# Altium schematic symbol library FPGA_Xilinx_Virtex5.SchLib: 41 symbols (part 5 of 17)
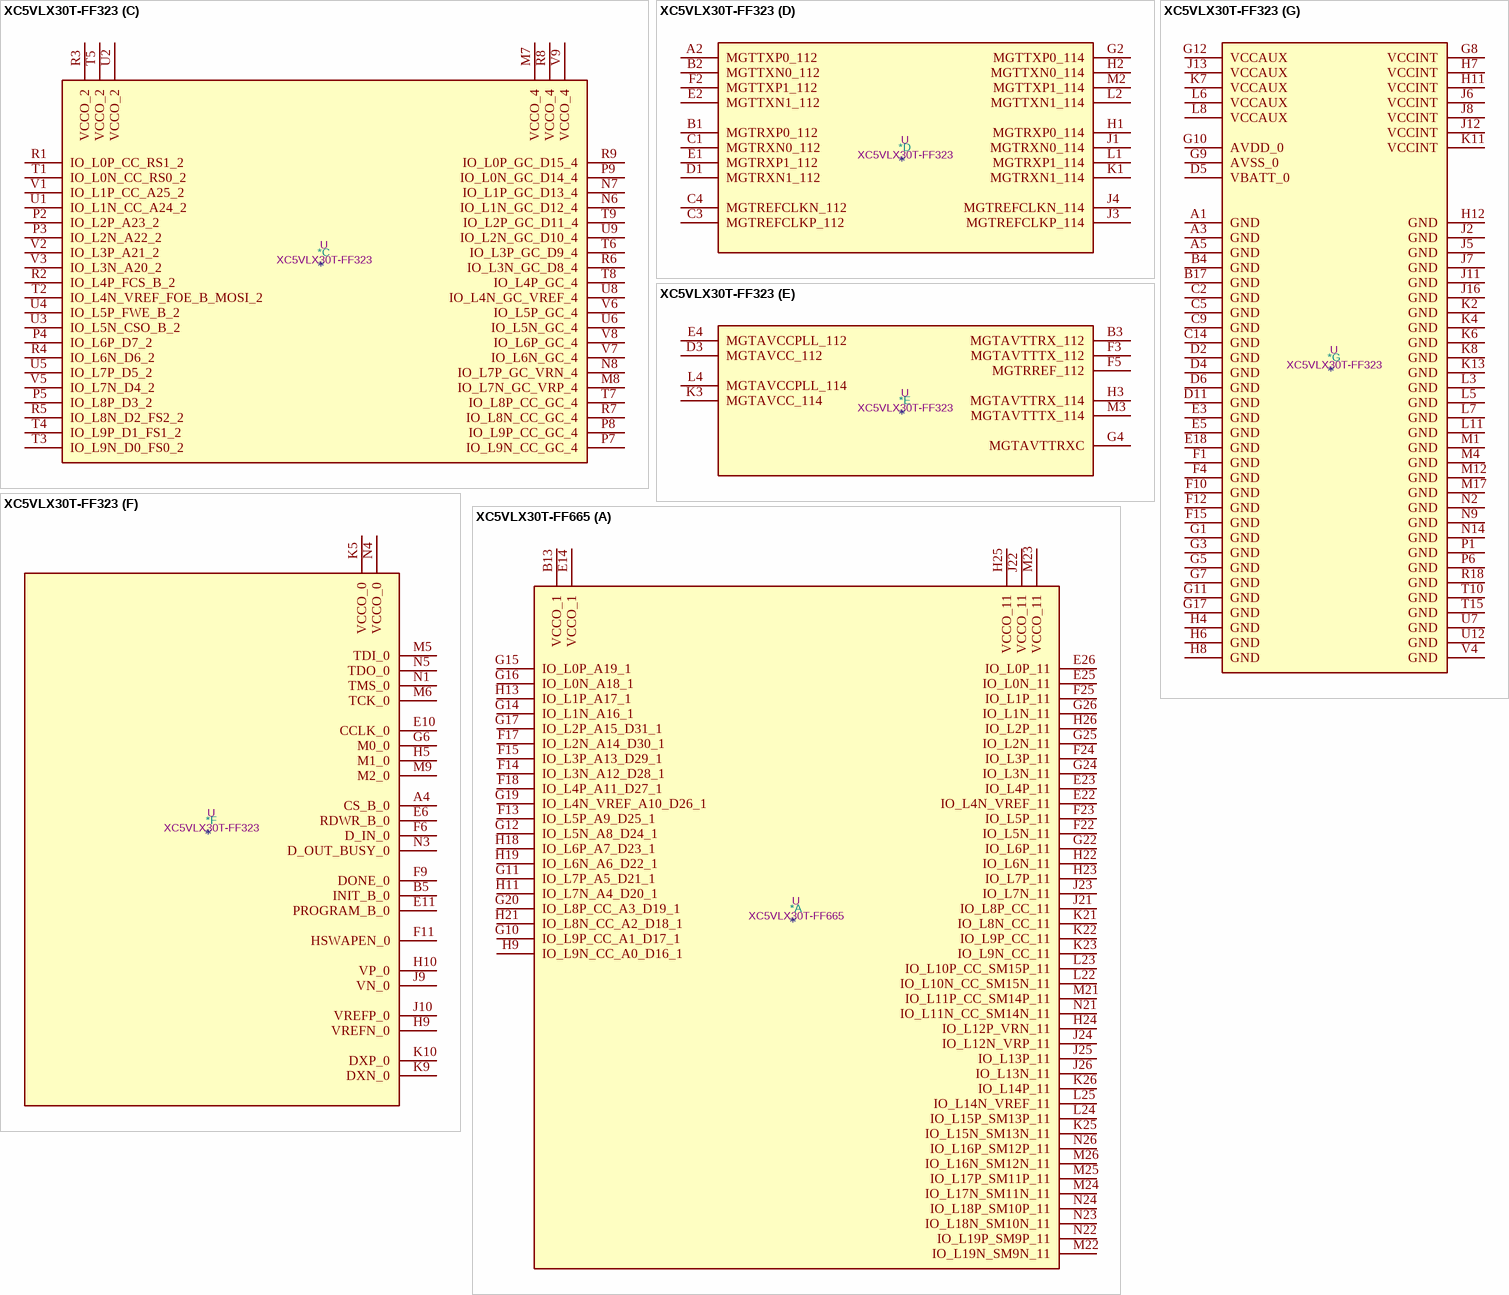
[diagram p141: symbols XC5VLX30T-FF323 to XC5VLX30T-FF665]

## XC5VLX30T-FF323
designator *  value XC5VLX30T-FF323  Reference: U
Virtex 5 LXT 30 XC5VLX30T-FF323; ki_keywords: FPGA; Description_: Virtex 5 LXT 30 XC5VLX30T-FF323
part A pins: A6 IO_L0N_A18_1, A7 IO_L0P_A19_1, A8 IO_L6P_A7_D23_1, A9 IO_L6N_A6_D22_1, A10 VCCO_1, A11 IO_L3P_11, A12 IO_L3N_11, A13 IO_L5N_11, A14 IO_L7N_11, A15 VCCO_11, A16 IO_L10N_CC_SM15N_11, A17 IO_L12N_VRP_11, A18 IO_L12P_VRN_11, B6 IO_L5P_A9_D25_1, B7 VCCO_1, B8 IO_L4N_VREF_A10_D26_1, B9 IO_L4P_A11_D27_1, B10 IO_L8P_CC_A3_D19_1, B11 IO_L19P_SM9P_11, B12 VCCO_11, B13 IO_L5P_11, B14 IO_L7P_11, B15 IO_L9N_CC_11, B16 IO_L10P_CC_SM15P_11, B18 IO_L16N_SM12N_11, C6 IO_L5N_A8_D24_1, C7 IO_L3N_A12_D28_1, C8 IO_L3P_A13_D29_1, C10 IO_L8N_CC_A2_D18_1, C11 IO_L19N_SM9N_11, C12 IO_L4P_11, C13 IO_L4N_VREF_11, C15 IO_L9P_CC_11, C16 IO_L14N_VREF_11, C17 IO_L14P_11, C18 IO_L16P_SM12P_11, D7 IO_L7P_A5_D21_1, D8 IO_L1N_A16_1, D9 IO_L2N_A14_D30_1, D10 IO_L2P_A15_D31_1, D12 IO_L15P_SM13P_11, D13 IO_L0P_11, D14 IO_L0N_11, D15 IO_L1N_11, D16 VCCO_11, D17 IO_L18N_SM10N_11, D18 IO_L18P_SM10P_11, E7 IO_L7N_A4_D20_1, E8 VCCO_1, E9 IO_L1P_A17_1, E12 IO_L15N_SM13N_11, E13 VCCO_11, E14 IO_L2P_11, E15 IO_L1P_11, E16 IO_L13N_11, E17 IO_L13P_11, F7 IO_L9N_CC_A0_D16_1, F8 IO_L9P_CC_A1_D17_1, F13 IO_L8N_CC_11, F14 IO_L2N_11, F16 IO_L11P_CC_SM14P_11, F17 IO_L17N_SM11N_11, F18 IO_L17P_SM11P_11, G13 IO_L8P_CC_11, G14 IO_L6P_11, G15 IO_L6N_11, G16 IO_L11N_CC_SM14N_11
part B pins: G18 IO_L1N_SM7N_13, H13 IO_L0P_SM8P_13, H14 VCCO_13, H15 IO_L6P_SM3P_13, H16 IO_L6N_SM3N_13, H17 IO_L1P_SM7P_13, H18 IO_L3P_SM5P_13, J14 IO_L0N_SM8N_13, J15 IO_L2P_SM6P_13, J17 IO_L5P_SM4P_13, J18 IO_L3N_SM5N_13, K12 IO_L4P_13, K14 IO_L13N_13, K15 IO_L2N_SM6N_13, K16 IO_L9P_CC_SM0P_13, K17 IO_L5N_SM4N_13, K18 VCCO_13, L12 IO_L4N_VREF_13, L13 IO_L11N_CC_13, L14 IO_L13P_13, L15 VCCO_13, L16 IO_L9N_CC_SM0N_13, L17 IO_L7N_SM2N_13, L18 IO_L7P_SM2P_13, M10 IO_L4P_17, M11 IO_L8N_CC_SM1N_13, M13 IO_L15N_13, M14 IO_L11P_CC_13, M15 IO_L19N_13, M16 IO_L18N_13, M18 IO_L10N_CC_13, N10 IO_L8N_CC_17, N11 IO_L4N_VREF_17, N12 IO_L8P_CC_SM1P_13, N13 IO_L15P_13, N15 IO_L19P_13, N16 IO_L18P_13, N17 IO_L12N_VRP_13, N18 IO_L10P_CC_13, P10 IO_L8P_CC_17, P11 VCCO_17, P12 IO_L17P_17, P13 IO_L17N_17, P14 IO_L17P_13, P15 IO_L17N_13, P16 VCCO_13, P17 IO_L14N_VREF_13, P18 IO_L12P_VRN_13, R10 IO_L11P_CC_17, R11 IO_L11N_CC_17, R12 IO_L6N_17, R13 VCCO_17, R14 IO_L14P_17, R15 IO_L16P_13, R16 IO_L16N_13, R17 IO_L14P_13, T11 IO_L13P_17, T12 IO_L6P_17, T13 IO_L16N_17, T14 IO_L14N_VREF_17, T16 IO_L5N_17, T17 IO_L5P_17, T18 IO_L7P_17, U10 IO_L15N_17, U11 IO_L13N_17, U13 IO_L18P_17, U14 IO_L16P_17, U15 IO_L9N_CC_17, U16 IO_L9P_CC_17, U17 VCCO_17, U18 IO_L7N_17, V10 IO_L15P_17, V11 IO_L19N_17, V12 IO_L19P_17, V13 IO_L18N_17, V14 VCCO_17, V15 IO_L12N_VRP_17, V16 IO_L12P_VRN_17, V17 IO_L10N_CC_17, V18 IO_L10P_CC_17
part C pins: M7 VCCO_4, M8 IO_L7N_GC_VRP_4, N6 IO_L1N_GC_D12_4, N7 IO_L1P_GC_D13_4, N8 IO_L7P_GC_VRN_4, P2 IO_L2P_A23_2, P3 IO_L2N_A22_2, P4 IO_L6P_D7_2, P5 IO_L8P_D3_2, P7 IO_L9N_CC_GC_4, P8 IO_L9P_CC_GC_4, P9 IO_L0N_GC_D14_4, R1 IO_L0P_CC_RS1_2, R2 IO_L4P_FCS_B_2, R3 VCCO_2, R4 IO_L6N_D6_2, R5 IO_L8N_D2_FS2_2, R6 IO_L3N_GC_D8_4, R7 IO_L8N_CC_GC_4, R8 VCCO_4, R9 IO_L0P_GC_D15_4, T1 IO_L0N_CC_RS0_2, T2 IO_L4N_VREF_FOE_B_MOSI_2, T3 IO_L9N_D0_FS0_2, T4 IO_L9P_D1_FS1_2, T5 VCCO_2, T6 IO_L3P_GC_D9_4, T7 IO_L8P_CC_GC_4, T8 IO_L4P_GC_4, T9 IO_L2P_GC_D11_4, U1 IO_L1N_CC_A24_2, U2 VCCO_2, U3 IO_L5N_CSO_B_2, U4 IO_L5P_FWE_B_2, U5 IO_L7P_D5_2, U6 IO_L5N_GC_4, U8 IO_L4N_GC_VREF_4, U9 IO_L2N_GC_D10_4, V1 IO_L1P_CC_A25_2, V2 IO_L3P_A21_2, V3 IO_L3N_A20_2, V5 IO_L7N_D4_2, V6 IO_L5P_GC_4, V7 IO_L6N_GC_4, V8 IO_L6P_GC_4, V9 VCCO_4
part D pins: A2 MGTTXP0_112, B1 MGTRXP0_112, B2 MGTTXN0_112, C1 MGTRXN0_112, C3 MGTREFCLKP_112, C4 MGTREFCLKN_112, D1 MGTRXN1_112, E1 MGTRXP1_112, E2 MGTTXN1_112, F2 MGTTXP1_112, G2 MGTTXP0_114, H1 MGTRXP0_114, H2 MGTTXN0_114, J1 MGTRXN0_114, J3 MGTREFCLKP_114, J4 MGTREFCLKN_114, K1 MGTRXN1_114, L1 MGTRXP1_114, L2 MGTTXN1_114, M2 MGTTXP1_114
part E pins: B3 MGTAVTTRX_112, D3 MGTAVCC_112, E4 MGTAVCCPLL_112, F3 MGTAVTTTX_112, F5 MGTRREF_112, G4 MGTAVTTRXC, H3 MGTAVTTRX_114, K3 MGTAVCC_114, L4 MGTAVCCPLL_114, M3 MGTAVTTTX_114
part F pins: A4 CS_B_0, B5 INIT_B_0, E6 RDWR_B_0, E10 CCLK_0, E11 PROGRAM_B_0, F6 D_IN_0, F9 DONE_0, F11 HSWAPEN_0, G6 M0_0, H5 M1_0, H9 VREFN_0, H10 VP_0, J9 VN_0, J10 VREFP_0, K5 VCCO_0, K9 DXN_0, K10 DXP_0, M5 TDI_0, M6 TCK_0, M9 M2_0, N1 TMS_0, N3 D_OUT_BUSY_0, N4 VCCO_0, N5 TDO_0
part G pins: A1 GND, A3 GND, A5 GND, B4 GND, B17 GND, C2 GND, C5 GND, C9 GND, C14 GND, D2 GND, D4 GND, D5 VBATT_0, D6 GND, D11 GND, E3 GND, E5 GND, E18 GND, F1 GND, F4 GND, F10 GND, F12 GND, F15 GND, G1 GND, G3 GND, G5 GND, G7 GND, G8 VCCINT, G9 AVSS_0, G10 AVDD_0, G11 GND, G12 VCCAUX, G17 GND, H4 GND, H6 GND, H7 VCCINT, H8 GND, H11 VCCINT, H12 GND, J2 GND, J5 GND, J6 VCCINT, J7 GND, J8 VCCINT, J11 GND, J12 VCCINT, J13 VCCAUX, J16 GND, K2 GND, K4 GND, K6 GND, K7 VCCAUX, K8 GND, K11 VCCINT, K13 GND, L3 GND, L5 GND, L6 VCCAUX, L7 GND, L8 VCCAUX, L11 GND, M1 GND, M4 GND, M12 GND, M17 GND, N2 GND, N9 GND, N14 GND, P1 GND, P6 GND, R18 GND, T10 GND, T15 GND, U7 GND, U12 GND, V4 GND

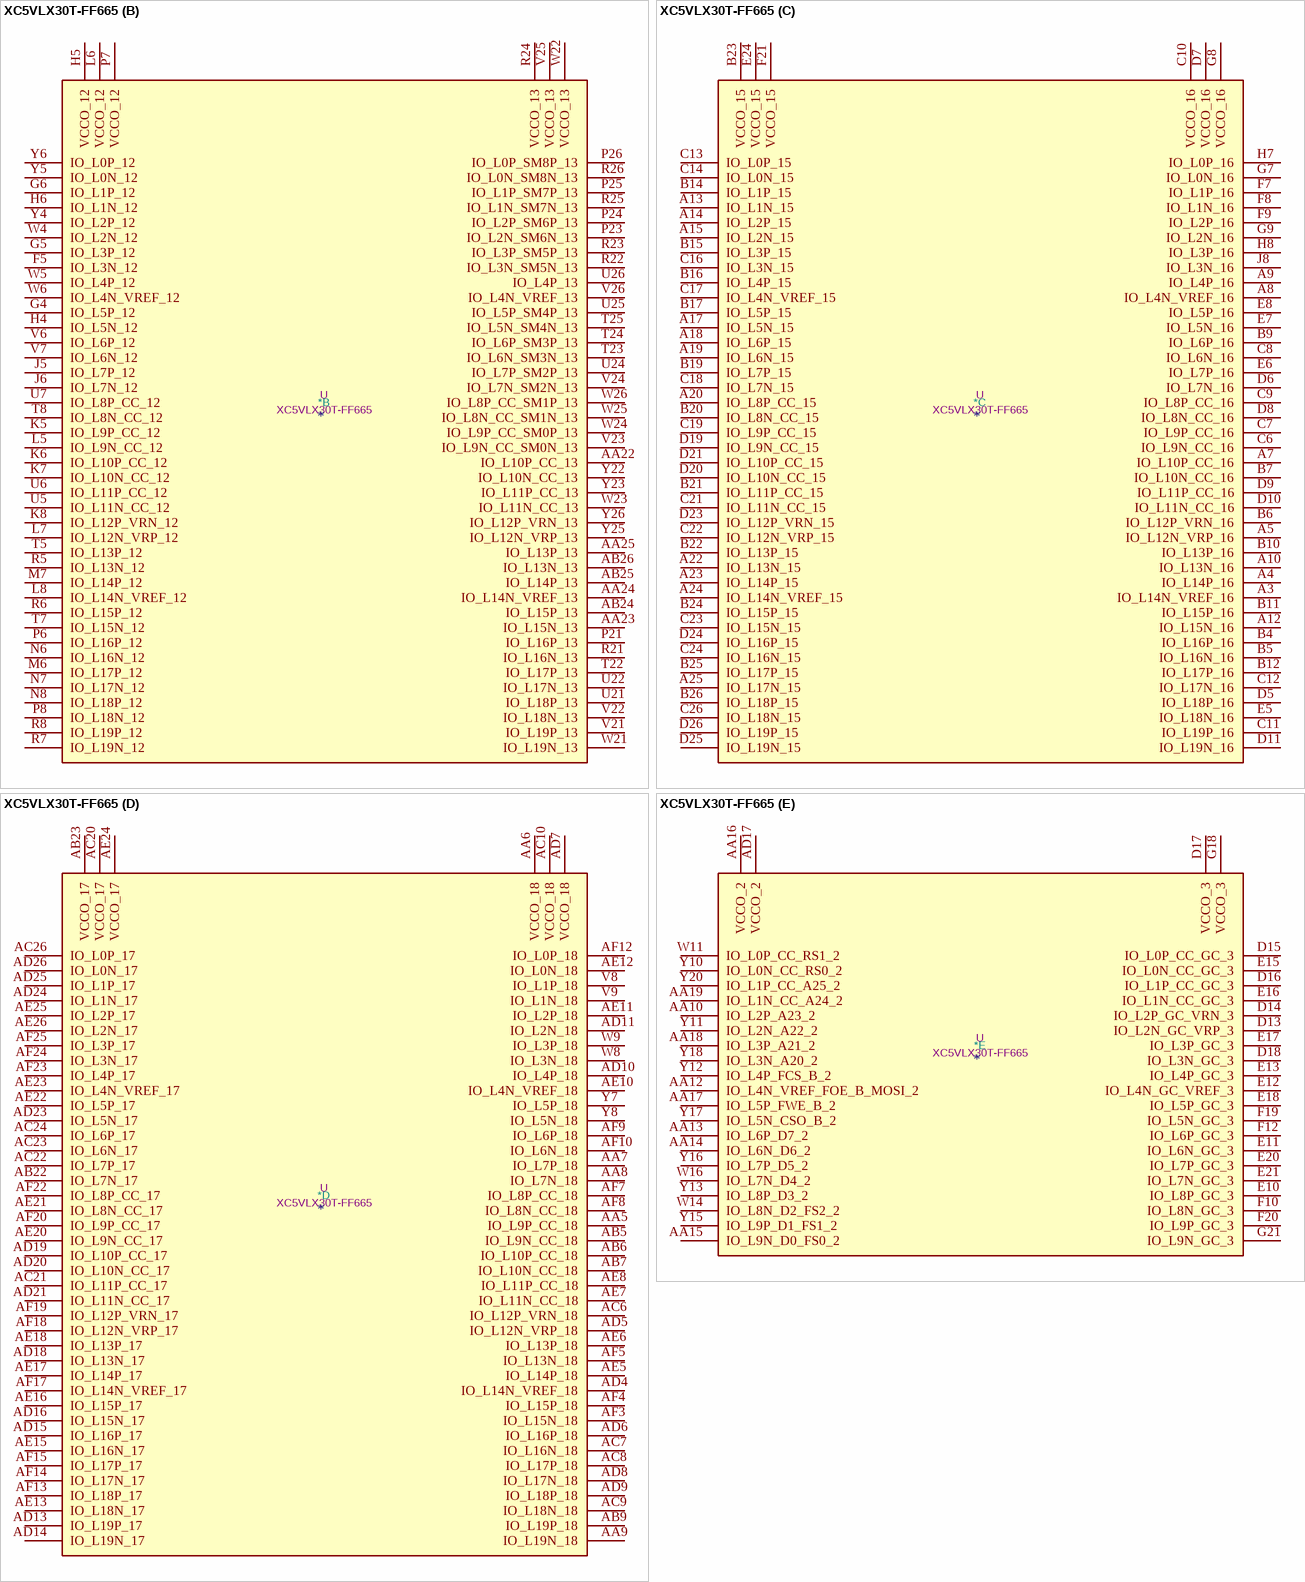
[diagram p32: symbol XC5VLX30T-FF665]

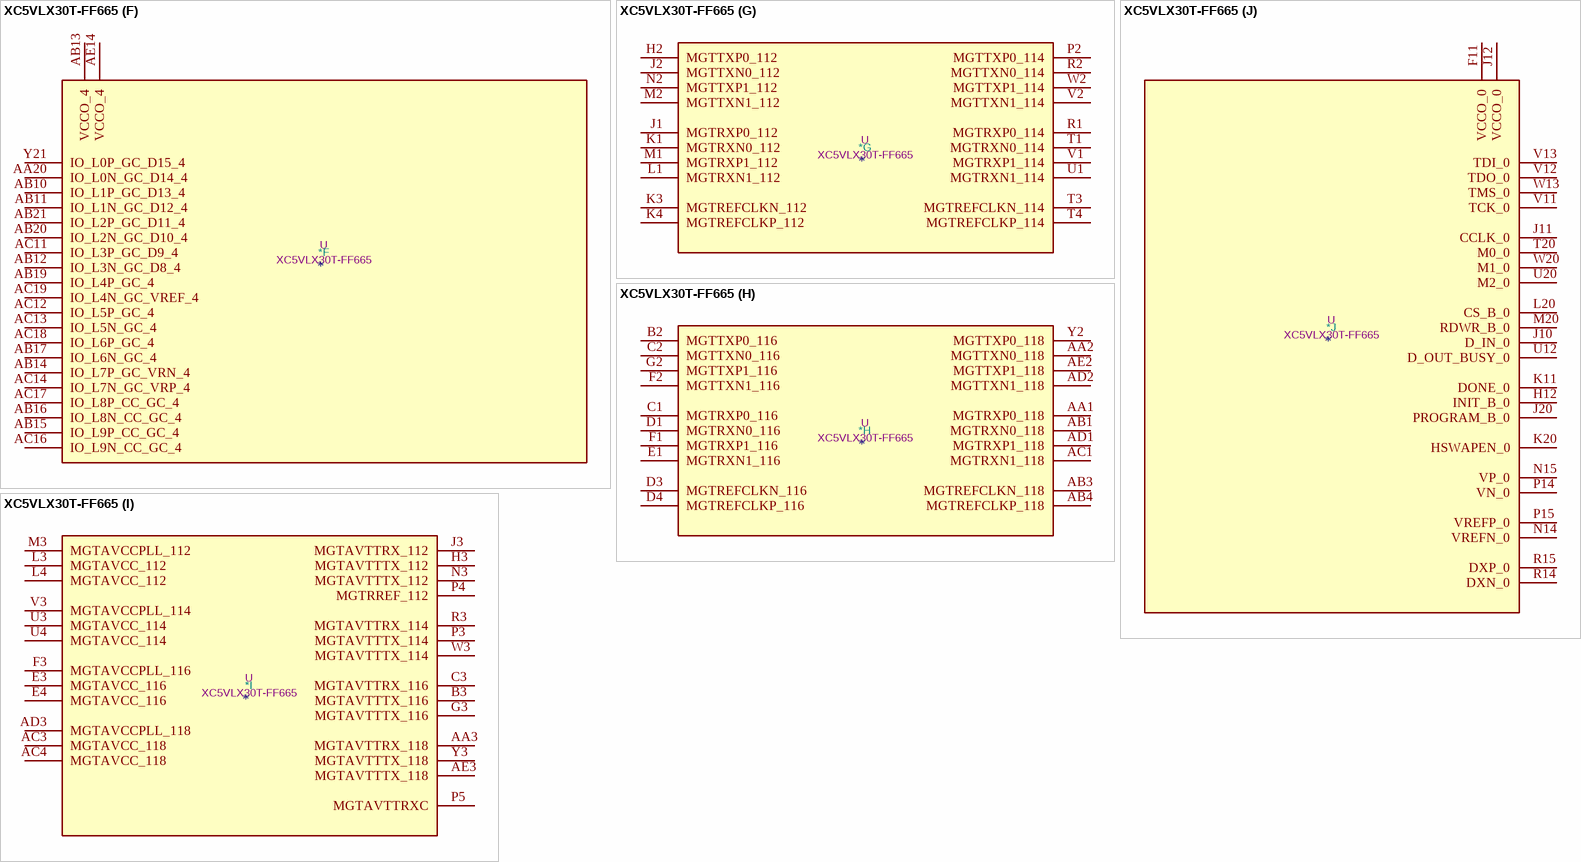
[diagram p33: symbol XC5VLX30T-FF665]

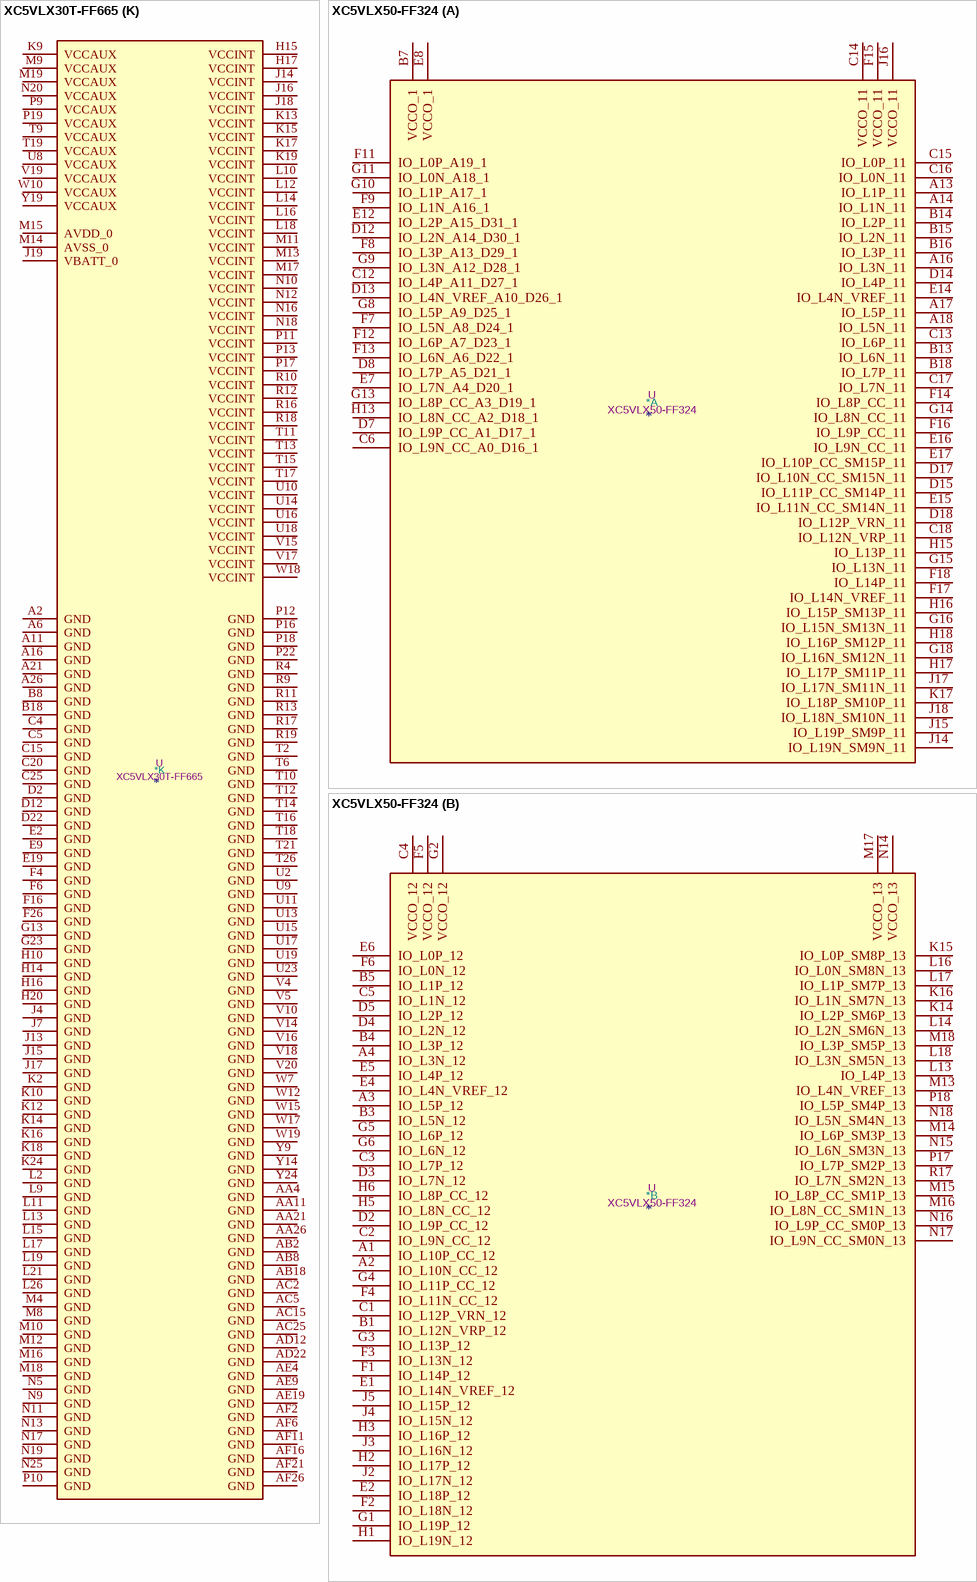
[diagram p34: symbols XC5VLX30T-FF665 to XC5VLX50-FF324]

## XC5VLX30T-FF665
designator *  value XC5VLX30T-FF665  Reference: U
Virtex 5 LXT 30 XC5VLX30T-FF665; ki_keywords: FPGA; Description_: Virtex 5 LXT 30 XC5VLX30T-FF665
part A pins: B13 VCCO_1, E14 VCCO_1, E22 IO_L4N_VREF_11, E23 IO_L4P_11, E25 IO_L0N_11, E26 IO_L0P_11, F13 IO_L5P_A9_D25_1, F14 IO_L3N_A12_D28_1, F15 IO_L3P_A13_D29_1, F17 IO_L2N_A14_D30_1, F18 IO_L4P_A11_D27_1, F22 IO_L5N_11, F23 IO_L5P_11, F24 IO_L3P_11, F25 IO_L1P_11, G10 IO_L9P_CC_A1_D17_1, G11 IO_L7P_A5_D21_1, G12 IO_L5N_A8_D24_1, G14 IO_L1N_A16_1, G15 IO_L0P_A19_1, G16 IO_L0N_A18_1, G17 IO_L2P_A15_D31_1, G19 IO_L4N_VREF_A10_D26_1, G20 IO_L8P_CC_A3_D19_1, G22 IO_L6P_11, G24 IO_L3N_11, G25 IO_L2N_11, G26 IO_L1N_11, H9 IO_L9N_CC_A0_D16_1, H11 IO_L7N_A4_D20_1, H13 IO_L1P_A17_1, H18 IO_L6P_A7_D23_1, H19 IO_L6N_A6_D22_1, H21 IO_L8N_CC_A2_D18_1, H22 IO_L6N_11, H23 IO_L7P_11, H24 IO_L12P_VRN_11, H25 VCCO_11, H26 IO_L2P_11, J21 IO_L8P_CC_11, J22 VCCO_11, J23 IO_L7N_11, J24 IO_L12N_VRP_11, J25 IO_L13P_11, J26 IO_L13N_11, K21 IO_L8N_CC_11, K22 IO_L9P_CC_11, K23 IO_L9N_CC_11, K25 IO_L15N_SM13N_11, K26 IO_L14P_11, L22 IO_L10N_CC_SM15N_11, L23 IO_L10P_CC_SM15P_11, L24 IO_L15P_SM13P_11, L25 IO_L14N_VREF_11, M21 IO_L11P_CC_SM14P_11, M22 IO_L19N_SM9N_11, M23 VCCO_11, M24 IO_L17N_SM11N_11, M25 IO_L17P_SM11P_11, M26 IO_L16N_SM12N_11, N21 IO_L11N_CC_SM14N_11, N22 IO_L19P_SM9P_11, N23 IO_L18N_SM10N_11, N24 IO_L18P_SM10P_11, N26 IO_L16P_SM12P_11
part B pins: AA22 IO_L10P_CC_13, AA23 IO_L15N_13, AA24 IO_L14N_VREF_13, AA25 IO_L13P_13, AB24 IO_L15P_13, AB25 IO_L14P_13, AB26 IO_L13N_13, F5 IO_L3N_12, G4 IO_L5P_12, G5 IO_L3P_12, G6 IO_L1P_12, H4 IO_L5N_12, H5 VCCO_12, H6 IO_L1N_12, J5 IO_L7P_12, J6 IO_L7N_12, K5 IO_L9P_CC_12, K6 IO_L10P_CC_12, K7 IO_L10N_CC_12, K8 IO_L12P_VRN_12, L5 IO_L9N_CC_12, L6 VCCO_12, L7 IO_L12N_VRP_12, L8 IO_L14N_VREF_12, M6 IO_L17P_12, M7 IO_L14P_12, N6 IO_L16N_12, N7 IO_L17N_12, N8 IO_L18P_12, P6 IO_L16P_12, P7 VCCO_12, P8 IO_L18N_12, P21 IO_L16P_13, P23 IO_L2N_SM6N_13, P24 IO_L2P_SM6P_13, P25 IO_L1P_SM7P_13, P26 IO_L0P_SM8P_13, R5 IO_L13N_12, R6 IO_L15P_12, R7 IO_L19N_12, R8 IO_L19P_12, R21 IO_L16N_13, R22 IO_L3N_SM5N_13, R23 IO_L3P_SM5P_13, R24 VCCO_13, R25 IO_L1N_SM7N_13, R26 IO_L0N_SM8N_13, T5 IO_L13P_12, T7 IO_L15N_12, T8 IO_L8N_CC_12, T22 IO_L17P_13, T23 IO_L6N_SM3N_13, T24 IO_L6P_SM3P_13, T25 IO_L5N_SM4N_13, U5 IO_L11N_CC_12, U6 IO_L11P_CC_12, U7 IO_L8P_CC_12, U21 IO_L18P_13, U22 IO_L17N_13, U24 IO_L7P_SM2P_13, U25 IO_L5P_SM4P_13, U26 IO_L4P_13, V6 IO_L6P_12, V7 IO_L6N_12, V21 IO_L19P_13, V22 IO_L18N_13, V23 IO_L9N_CC_SM0N_13, V24 IO_L7N_SM2N_13, V25 VCCO_13, V26 IO_L4N_VREF_13, W4 IO_L2N_12, W5 IO_L4P_12, W6 IO_L4N_VREF_12, W21 IO_L19N_13, W22 VCCO_13, W23 IO_L11N_CC_13, W24 IO_L9P_CC_SM0P_13, W25 IO_L8N_CC_SM1N_13, W26 IO_L8P_CC_SM1P_13, Y4 IO_L2P_12, Y5 IO_L0N_12, Y6 IO_L0P_12, Y22 IO_L10N_CC_13, Y23 IO_L11P_CC_13, Y25 IO_L12N_VRP_13, Y26 IO_L12P_VRN_13
part C pins: A3 IO_L14N_VREF_16, A4 IO_L14P_16, A5 IO_L12N_VRP_16, A7 IO_L10P_CC_16, A8 IO_L4N_VREF_16, A9 IO_L4P_16, A10 IO_L13N_16, A12 IO_L15N_16, A13 IO_L1N_15, A14 IO_L2P_15, A15 IO_L2N_15, A17 IO_L5N_15, A18 IO_L6P_15, A19 IO_L6N_15, A20 IO_L8P_CC_15, A22 IO_L13N_15, A23 IO_L14P_15, A24 IO_L14N_VREF_15, A25 IO_L17N_15, B4 IO_L16P_16, B5 IO_L16N_16, B6 IO_L12P_VRN_16, B7 IO_L10N_CC_16, B9 IO_L6P_16, B10 IO_L13P_16, B11 IO_L15P_16, B12 IO_L17P_16, B14 IO_L1P_15, B15 IO_L3P_15, B16 IO_L4P_15, B17 IO_L5P_15, B19 IO_L7P_15, B20 IO_L8N_CC_15, B21 IO_L11P_CC_15, B22 IO_L13P_15, B23 VCCO_15, B24 IO_L15P_15, B25 IO_L17P_15, B26 IO_L18P_15, C6 IO_L9N_CC_16, C7 IO_L9P_CC_16, C8 IO_L6N_16, C9 IO_L8P_CC_16, C10 VCCO_16, C11 IO_L19P_16, C12 IO_L17N_16, C13 IO_L0P_15, C14 IO_L0N_15, C16 IO_L3N_15, C17 IO_L4N_VREF_15, C18 IO_L7N_15, C19 IO_L9P_CC_15, C21 IO_L11N_CC_15, C22 IO_L12N_VRP_15, C23 IO_L15N_15, C24 IO_L16N_15, C26 IO_L18N_15, D5 IO_L18P_16, D6 IO_L7N_16, D7 VCCO_16, D8 IO_L8N_CC_16, D9 IO_L11P_CC_16, D10 IO_L11N_CC_16, D11 IO_L19N_16, D19 IO_L9N_CC_15, D20 IO_L10N_CC_15, D21 IO_L10P_CC_15, D23 IO_L12P_VRN_15, D24 IO_L16P_15, D25 IO_L19N_15, D26 IO_L19P_15, E5 IO_L18N_16, E6 IO_L7P_16, E7 IO_L5N_16, E8 IO_L5P_16, E24 VCCO_15, F7 IO_L1P_16, F8 IO_L1N_16, F9 IO_L2P_16, F21 VCCO_15, G7 IO_L0N_16, G8 VCCO_16, G9 IO_L2N_16, H7 IO_L0P_16, H8 IO_L3P_16, J8 IO_L3N_16
part D pins: AA5 IO_L9P_CC_18, AA6 VCCO_18, AA7 IO_L7P_18, AA8 IO_L7N_18, AA9 IO_L19N_18, AB5 IO_L9N_CC_18, AB6 IO_L10P_CC_18, AB7 IO_L10N_CC_18, AB9 IO_L19P_18, AB22 IO_L7N_17, AB23 VCCO_17, AC6 IO_L12P_VRN_18, AC7 IO_L16N_18, AC8 IO_L17P_18, AC9 IO_L18N_18, AC10 VCCO_18, AC20 VCCO_17, AC21 IO_L11P_CC_17, AC22 IO_L7P_17, AC23 IO_L6N_17, AC24 IO_L6P_17, AC26 IO_L0P_17, AD4 IO_L14N_VREF_18, AD5 IO_L12N_VRP_18, AD6 IO_L16P_18, AD7 VCCO_18, AD8 IO_L17N_18, AD9 IO_L18P_18, AD10 IO_L4P_18, AD11 IO_L2N_18, AD13 IO_L19P_17, AD14 IO_L19N_17, AD15 IO_L16P_17, AD16 IO_L15N_17, AD18 IO_L13N_17, AD19 IO_L10P_CC_17, AD20 IO_L10N_CC_17, AD21 IO_L11N_CC_17, AD23 IO_L5N_17, AD24 IO_L1N_17, AD25 IO_L1P_17, AD26 IO_L0N_17, AE5 IO_L14P_18, AE6 IO_L13P_18, AE7 IO_L11N_CC_18, AE8 IO_L11P_CC_18, AE10 IO_L4N_VREF_18, AE11 IO_L2P_18, AE12 IO_L0N_18, AE13 IO_L18N_17, AE15 IO_L16N_17, AE16 IO_L15P_17, AE17 IO_L14P_17, AE18 IO_L13P_17, AE20 IO_L9N_CC_17, AE21 IO_L8N_CC_17, AE22 IO_L5P_17, AE23 IO_L4N_VREF_17, AE24 VCCO_17, AE25 IO_L2P_17, AE26 IO_L2N_17, AF3 IO_L15N_18, AF4 IO_L15P_18, AF5 IO_L13N_18, AF7 IO_L8P_CC_18, AF8 IO_L8N_CC_18, AF9 IO_L6P_18, AF10 IO_L6N_18, AF12 IO_L0P_18, AF13 IO_L18P_17, AF14 IO_L17N_17, AF15 IO_L17P_17, AF17 IO_L14N_VREF_17, AF18 IO_L12N_VRP_17, AF19 IO_L12P_VRN_17, AF20 IO_L9P_CC_17, AF22 IO_L8P_CC_17, AF23 IO_L4P_17, AF24 IO_L3N_17, AF25 IO_L3P_17, V8 IO_L1P_18, V9 IO_L1N_18, W8 IO_L3N_18, W9 IO_L3P_18, Y7 IO_L5P_18, Y8 IO_L5N_18
part E pins: AA10 IO_L2P_A23_2, AA12 IO_L4N_VREF_FOE_B_MOSI_2, AA13 IO_L6P_D7_2, AA14 IO_L6N_D6_2, AA15 IO_L9N_D0_FS0_2, AA16 VCCO_2, AA17 IO_L5P_FWE_B_2, AA18 IO_L3P_A21_2, AA19 IO_L1N_CC_A24_2, AD17 VCCO_2, D13 IO_L2N_GC_VRP_3, D14 IO_L2P_GC_VRN_3, D15 IO_L0P_CC_GC_3, D16 IO_L1P_CC_GC_3, D17 VCCO_3, D18 IO_L3N_GC_3, E10 IO_L8P_GC_3, E11 IO_L6N_GC_3, E12 IO_L4N_GC_VREF_3, E13 IO_L4P_GC_3, E15 IO_L0N_CC_GC_3, E16 IO_L1N_CC_GC_3, E17 IO_L3P_GC_3, E18 IO_L5P_GC_3, E20 IO_L7P_GC_3, E21 IO_L7N_GC_3, F10 IO_L8N_GC_3, F12 IO_L6P_GC_3, F19 IO_L5N_GC_3, F20 IO_L9P_GC_3, G18 VCCO_3, G21 IO_L9N_GC_3, W11 IO_L0P_CC_RS1_2, W14 IO_L8N_D2_FS2_2, W16 IO_L7N_D4_2, Y10 IO_L0N_CC_RS0_2, Y11 IO_L2N_A22_2, Y12 IO_L4P_FCS_B_2, Y13 IO_L8P_D3_2, Y15 IO_L9P_D1_FS1_2, Y16 IO_L7P_D5_2, Y17 IO_L5N_CSO_B_2, Y18 IO_L3N_A20_2, Y20 IO_L1P_CC_A25_2
part F pins: AA20 IO_L0N_GC_D14_4, AB10 IO_L1P_GC_D13_4, AB11 IO_L1N_GC_D12_4, AB12 IO_L3N_GC_D8_4, AB13 VCCO_4, AB14 IO_L7P_GC_VRN_4, AB15 IO_L9P_CC_GC_4, AB16 IO_L8N_CC_GC_4, AB17 IO_L6N_GC_4, AB19 IO_L4P_GC_4, AB20 IO_L2N_GC_D10_4, AB21 IO_L2P_GC_D11_4, AC11 IO_L3P_GC_D9_4, AC12 IO_L5P_GC_4, AC13 IO_L5N_GC_4, AC14 IO_L7N_GC_VRP_4, AC16 IO_L9N_CC_GC_4, AC17 IO_L8P_CC_GC_4, AC18 IO_L6P_GC_4, AC19 IO_L4N_GC_VREF_4, AE14 VCCO_4, Y21 IO_L0P_GC_D15_4
part G pins: H2 MGTTXP0_112, J1 MGTRXP0_112, J2 MGTTXN0_112, K1 MGTRXN0_112, K3 MGTREFCLKN_112, K4 MGTREFCLKP_112, L1 MGTRXN1_112, M1 MGTRXP1_112, M2 MGTTXN1_112, N2 MGTTXP1_112, P2 MGTTXP0_114, R1 MGTRXP0_114, R2 MGTTXN0_114, T1 MGTRXN0_114, T3 MGTREFCLKN_114, T4 MGTREFCLKP_114, U1 MGTRXN1_114, V1 MGTRXP1_114, V2 MGTTXN1_114, W2 MGTTXP1_114
part H pins: AA1 MGTRXP0_118, AA2 MGTTXN0_118, AB1 MGTRXN0_118, AB3 MGTREFCLKN_118, AB4 MGTREFCLKP_118, AC1 MGTRXN1_118, AD1 MGTRXP1_118, AD2 MGTTXN1_118, AE2 MGTTXP1_118, B2 MGTTXP0_116, C1 MGTRXP0_116, C2 MGTTXN0_116, D1 MGTRXN0_116, D3 MGTREFCLKN_116, D4 MGTREFCLKP_116, E1 MGTRXN1_116, F1 MGTRXP1_116, F2 MGTTXN1_116, G2 MGTTXP1_116, Y2 MGTTXP0_118
part I pins: AA3 MGTAVTTRX_118, AC3 MGTAVCC_118, AC4 MGTAVCC_118, AD3 MGTAVCCPLL_118, AE3 MGTAVTTTX_118, B3 MGTAVTTTX_116, C3 MGTAVTTRX_116, E3 MGTAVCC_116, E4 MGTAVCC_116, F3 MGTAVCCPLL_116, G3 MGTAVTTTX_116, H3 MGTAVTTTX_112, J3 MGTAVTTRX_112, L3 MGTAVCC_112, L4 MGTAVCC_112, M3 MGTAVCCPLL_112, N3 MGTAVTTTX_112, P3 MGTAVTTTX_114, P4 MGTRREF_112, P5 MGTAVTTRXC, R3 MGTAVTTRX_114, U3 MGTAVCC_114, U4 MGTAVCC_114, V3 MGTAVCCPLL_114, W3 MGTAVTTTX_114, Y3 MGTAVTTTX_118
part J pins: F11 VCCO_0, H12 INIT_B_0, J10 D_IN_0, J11 CCLK_0, J12 VCCO_0, J20 PROGRAM_B_0, K11 DONE_0, K20 HSWAPEN_0, L20 CS_B_0, M20 RDWR_B_0, N14 VREFN_0, N15 VP_0, P14 VN_0, P15 VREFP_0, R14 DXN_0, R15 DXP_0, T20 M0_0, U12 D_OUT_BUSY_0, U20 M2_0, V11 TCK_0, V12 TDO_0, V13 TDI_0, W13 TMS_0, W20 M1_0
part K pins: A2 GND, A6 GND, A11 GND, A16 GND, A21 GND, A26 GND, AA4 GND, AA11 GND, AA21 GND, AA26 GND, AB2 GND, AB8 GND, AB18 GND, AC2 GND, AC5 GND, AC15 GND, AC25 GND, AD12 GND, AD22 GND, AE4 GND, AE9 GND, AE19 GND, AF2 GND, AF6 GND, AF11 GND, AF16 GND, AF21 GND, AF26 GND, B8 GND, B18 GND, C4 GND, C5 GND, C15 GND, C20 GND, C25 GND, D2 GND, D12 GND, D22 GND, E2 GND, E9 GND, E19 GND, F4 GND, F6 GND, F16 GND, F26 GND, G13 GND, G23 GND, H10 GND, H14 GND, H15 VCCINT, H16 GND, H17 VCCINT, H20 GND, J4 GND, J7 GND, J13 GND, J14 VCCINT, J15 GND, J16 VCCINT, J17 GND, J18 VCCINT, J19 VBATT_0, K2 GND, K9 VCCAUX, K10 GND, K12 GND, K13 VCCINT, K14 GND, K15 VCCINT, K16 GND, K17 VCCINT, K18 GND, K19 VCCINT, K24 GND, L2 GND, L9 GND, L10 VCCINT, L11 GND, L12 VCCINT, L13 GND, L14 VCCINT, L15 GND, L16 VCCINT, L17 GND, L18 VCCINT, L19 GND, L21 GND, L26 GND, M4 GND, M8 GND, M9 VCCAUX, M10 GND, M11 VCCINT, M12 GND, M13 VCCINT, M14 AVSS_0, M15 AVDD_0, M16 GND, M17 VCCINT, M18 GND, M19 VCCAUX, N5 GND, N9 GND, N10 VCCINT, N11 GND, N12 VCCINT, N13 GND, N16 VCCINT, N17 GND, N18 VCCINT, N19 GND, N20 VCCAUX, N25 GND, P9 VCCAUX, P10 GND, P11 VCCINT, P12 GND, P13 VCCINT, P16 GND, P17 VCCINT, P18 GND, P19 VCCAUX, P22 GND, R4 GND, R9 GND, R10 VCCINT, R11 GND, R12 VCCINT, R13 GND, R16 VCCINT, R17 GND, R18 VCCINT, R19 GND, T2 GND, T6 GND, T9 VCCAUX, T10 GND, T11 VCCINT, T12 GND, T13 VCCINT, T14 GND, T15 VCCINT, T16 GND, T17 VCCINT, T18 GND, T19 VCCAUX, T21 GND, T26 GND, U2 GND, U8 VCCAUX, U9 GND, U10 VCCINT, U11 GND, U13 GND, U14 VCCINT, U15 GND, U16 VCCINT, U17 GND, U18 VCCINT, U19 GND, U23 GND, V4 GND, V5 GND, V10 GND, V14 GND, V15 VCCINT, V16 GND, V17 VCCINT, V18 GND, V19 VCCAUX, V20 GND, W7 GND, W10 VCCAUX, W12 GND, W15 GND, W17 GND, W18 VCCINT, W19 GND, Y9 GND, Y14 GND, Y19 VCCAUX, Y24 GND

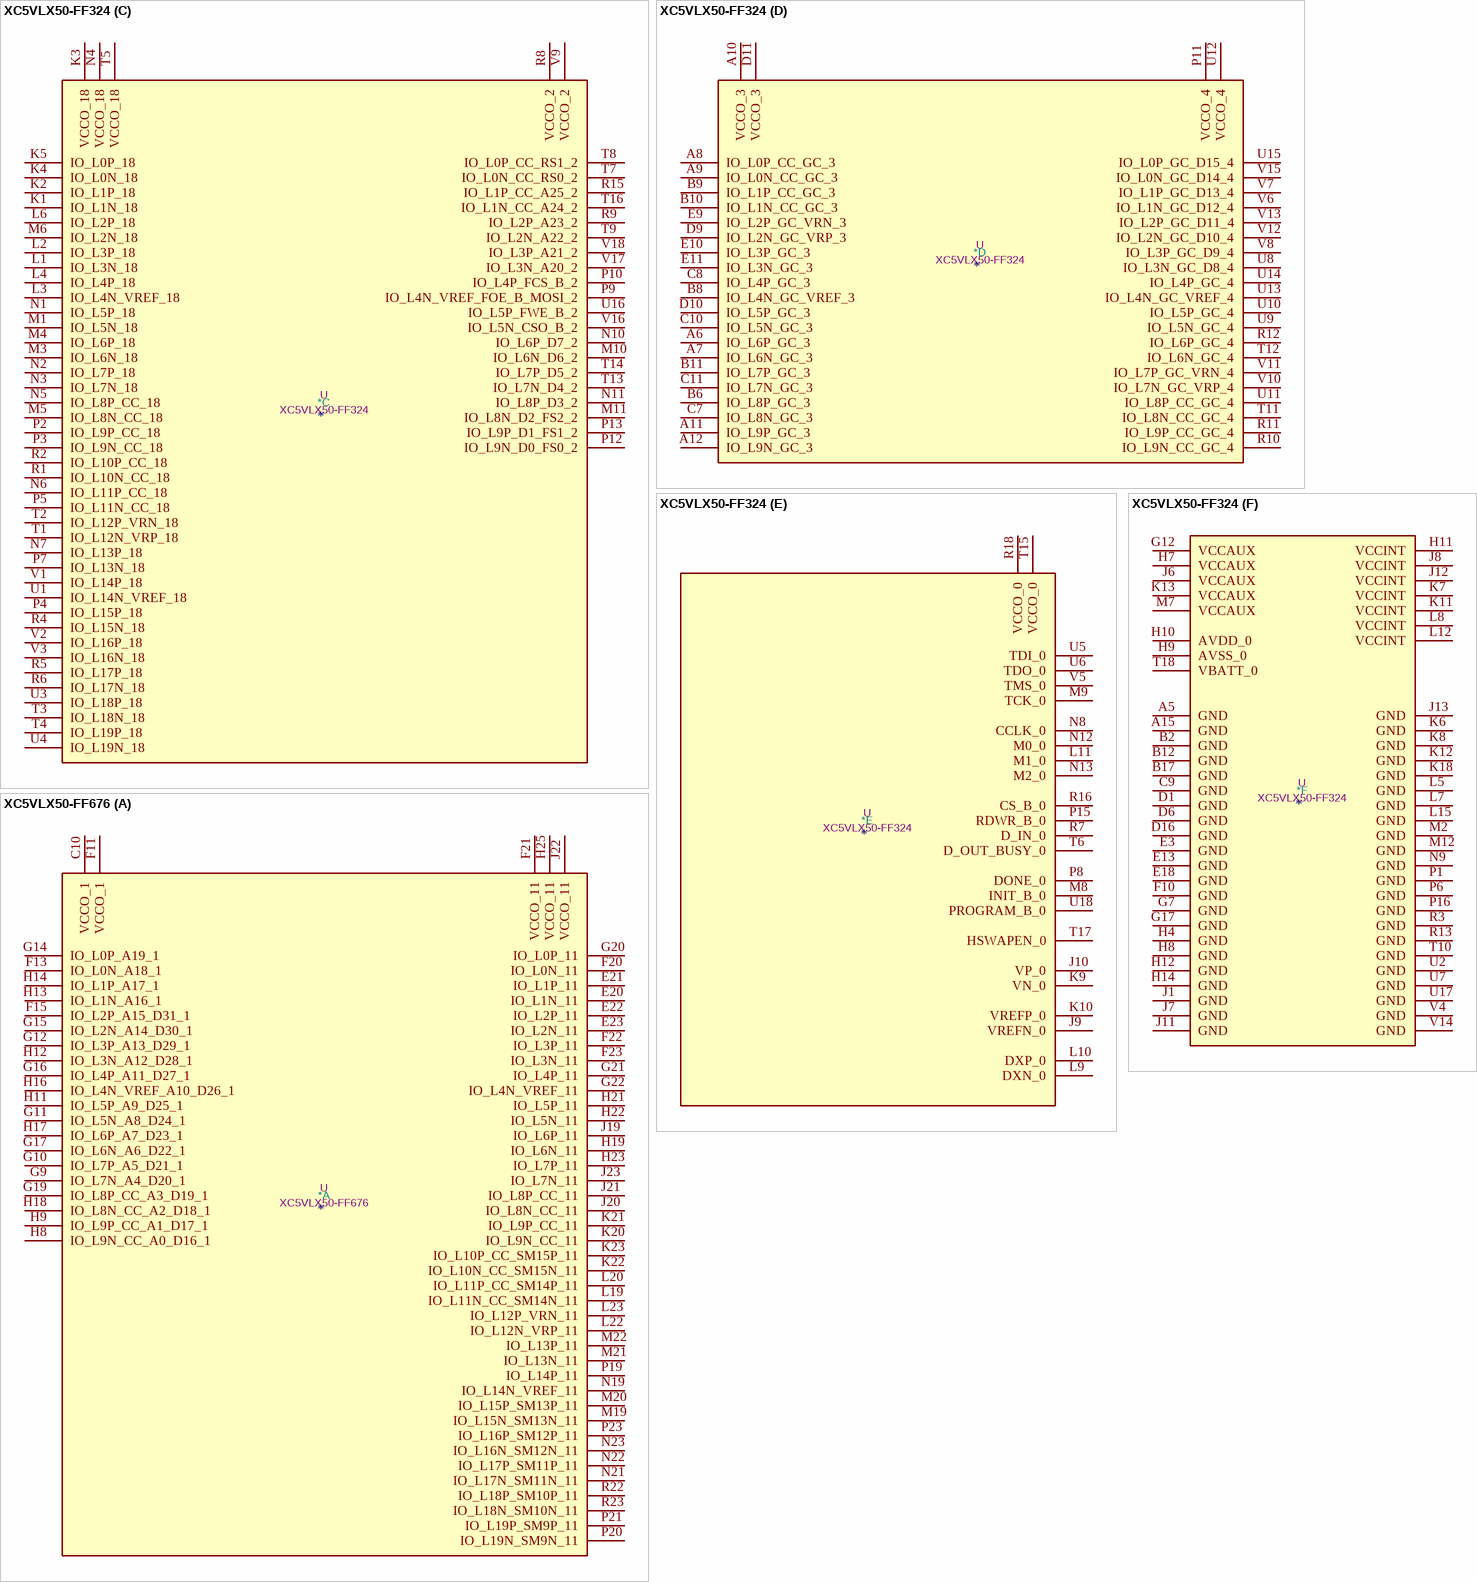
[diagram p35: symbols XC5VLX50-FF324 to XC5VLX50-FF676]

## XC5VLX50-FF324
designator *  value XC5VLX50-FF324  Reference: U
Virtex 5 LX 50 XC5VLX50-FF324; ki_keywords: FPGA; Description_: Virtex 5 LX 50 XC5VLX50-FF324
part A pins: A13 IO_L1P_11, A14 IO_L1N_11, A16 IO_L3N_11, A17 IO_L5P_11, A18 IO_L5N_11, B7 VCCO_1, B13 IO_L6N_11, B14 IO_L2P_11, B15 IO_L2N_11, B16 IO_L3P_11, B18 IO_L7P_11, C6 IO_L9N_CC_A0_D16_1, C12 IO_L4P_A11_D27_1, C13 IO_L6P_11, C14 VCCO_11, C15 IO_L0P_11, C16 IO_L0N_11, C17 IO_L7N_11, C18 IO_L12N_VRP_11, D7 IO_L9P_CC_A1_D17_1, D8 IO_L7P_A5_D21_1, D12 IO_L2N_A14_D30_1, D13 IO_L4N_VREF_A10_D26_1, D14 IO_L4P_11, D15 IO_L11P_CC_SM14P_11, D17 IO_L10N_CC_SM15N_11, D18 IO_L12P_VRN_11, E7 IO_L7N_A4_D20_1, E8 VCCO_1, E12 IO_L2P_A15_D31_1, E14 IO_L4N_VREF_11, E15 IO_L11N_CC_SM14N_11, E16 IO_L9N_CC_11, E17 IO_L10P_CC_SM15P_11, F7 IO_L5N_A8_D24_1, F8 IO_L3P_A13_D29_1, F9 IO_L1N_A16_1, F11 IO_L0P_A19_1, F12 IO_L6P_A7_D23_1, F13 IO_L6N_A6_D22_1, F14 IO_L8P_CC_11, F15 VCCO_11, F16 IO_L9P_CC_11, F17 IO_L14N_VREF_11, F18 IO_L14P_11, G8 IO_L5P_A9_D25_1, G9 IO_L3N_A12_D28_1, G10 IO_L1P_A17_1, G11 IO_L0N_A18_1, G13 IO_L8P_CC_A3_D19_1, G14 IO_L8N_CC_11, G15 IO_L13N_11, G16 IO_L15N_SM13N_11, G18 IO_L16N_SM12N_11, H13 IO_L8N_CC_A2_D18_1, H15 IO_L13P_11, H16 IO_L15P_SM13P_11, H17 IO_L17P_SM11P_11, H18 IO_L16P_SM12P_11, J14 IO_L19N_SM9N_11, J15 IO_L19P_SM9P_11, J16 VCCO_11, J17 IO_L17N_SM11N_11, J18 IO_L18N_SM10N_11, K17 IO_L18P_SM10P_11
part B pins: A1 IO_L10P_CC_12, A2 IO_L10N_CC_12, A3 IO_L5P_12, A4 IO_L3N_12, B1 IO_L12N_VRP_12, B3 IO_L5N_12, B4 IO_L3P_12, B5 IO_L1P_12, C1 IO_L12P_VRN_12, C2 IO_L9N_CC_12, C3 IO_L7P_12, C4 VCCO_12, C5 IO_L1N_12, D2 IO_L9P_CC_12, D3 IO_L7N_12, D4 IO_L2N_12, D5 IO_L2P_12, E1 IO_L14N_VREF_12, E2 IO_L18P_12, E4 IO_L4N_VREF_12, E5 IO_L4P_12, E6 IO_L0P_12, F1 IO_L14P_12, F2 IO_L18N_12, F3 IO_L13N_12, F4 IO_L11N_CC_12, F5 VCCO_12, F6 IO_L0N_12, G1 IO_L19P_12, G2 VCCO_12, G3 IO_L13P_12, G4 IO_L11P_CC_12, G5 IO_L6P_12, G6 IO_L6N_12, H1 IO_L19N_12, H2 IO_L17P_12, H3 IO_L16P_12, H5 IO_L8N_CC_12, H6 IO_L8P_CC_12, J2 IO_L17N_12, J3 IO_L16N_12, J4 IO_L15N_12, J5 IO_L15P_12, K14 IO_L2P_SM6P_13, K15 IO_L0P_SM8P_13, K16 IO_L1N_SM7N_13, L13 IO_L4P_13, L14 IO_L2N_SM6N_13, L16 IO_L0N_SM8N_13, L17 IO_L1P_SM7P_13, L18 IO_L3N_SM5N_13, M13 IO_L4N_VREF_13, M14 IO_L6P_SM3P_13, M15 IO_L8P_CC_SM1P_13, M16 IO_L8N_CC_SM1N_13, M17 VCCO_13, M18 IO_L3P_SM5P_13, N14 VCCO_13, N15 IO_L6N_SM3N_13, N16 IO_L9P_CC_SM0P_13, N17 IO_L9N_CC_SM0N_13, N18 IO_L5N_SM4N_13, P17 IO_L7P_SM2P_13, P18 IO_L5P_SM4P_13, R17 IO_L7N_SM2N_13
part C pins: K1 IO_L1N_18, K2 IO_L1P_18, K3 VCCO_18, K4 IO_L0N_18, K5 IO_L0P_18, L1 IO_L3N_18, L2 IO_L3P_18, L3 IO_L4N_VREF_18, L4 IO_L4P_18, L6 IO_L2P_18, M1 IO_L5N_18, M3 IO_L6N_18, M4 IO_L6P_18, M5 IO_L8N_CC_18, M6 IO_L2N_18, M10 IO_L6N_D6_2, M11 IO_L8N_D2_FS2_2, N1 IO_L5P_18, N2 IO_L7P_18, N3 IO_L7N_18, N4 VCCO_18, N5 IO_L8P_CC_18, N6 IO_L11P_CC_18, N7 IO_L13P_18, N10 IO_L6P_D7_2, N11 IO_L8P_D3_2, P2 IO_L9P_CC_18, P3 IO_L9N_CC_18, P4 IO_L15P_18, P5 IO_L11N_CC_18, P7 IO_L13N_18, P9 IO_L4N_VREF_FOE_B_MOSI_2, P10 IO_L4P_FCS_B_2, P12 IO_L9N_D0_FS0_2, P13 IO_L9P_D1_FS1_2, R1 IO_L10N_CC_18, R2 IO_L10P_CC_18, R4 IO_L15N_18, R5 IO_L17P_18, R6 IO_L17N_18, R8 VCCO_2, R9 IO_L2P_A23_2, R15 IO_L1P_CC_A25_2, T1 IO_L12N_VRP_18, T2 IO_L12P_VRN_18, T3 IO_L18N_18, T4 IO_L19P_18, T5 VCCO_18, T7 IO_L0N_CC_RS0_2, T8 IO_L0P_CC_RS1_2, T9 IO_L2N_A22_2, T13 IO_L7N_D4_2, T14 IO_L7P_D5_2, T16 IO_L1N_CC_A24_2, U1 IO_L14N_VREF_18, U3 IO_L18P_18, U4 IO_L19N_18, U16 IO_L5P_FWE_B_2, V1 IO_L14P_18, V2 IO_L16P_18, V3 IO_L16N_18, V9 VCCO_2, V16 IO_L5N_CSO_B_2, V17 IO_L3N_A20_2, V18 IO_L3P_A21_2
part D pins: A6 IO_L6P_GC_3, A7 IO_L6N_GC_3, A8 IO_L0P_CC_GC_3, A9 IO_L0N_CC_GC_3, A10 VCCO_3, A11 IO_L9P_GC_3, A12 IO_L9N_GC_3, B6 IO_L8P_GC_3, B8 IO_L4N_GC_VREF_3, B9 IO_L1P_CC_GC_3, B10 IO_L1N_CC_GC_3, B11 IO_L7P_GC_3, C7 IO_L8N_GC_3, C8 IO_L4P_GC_3, C10 IO_L5N_GC_3, C11 IO_L7N_GC_3, D9 IO_L2N_GC_VRP_3, D10 IO_L5P_GC_3, D11 VCCO_3, E9 IO_L2P_GC_VRN_3, E10 IO_L3P_GC_3, E11 IO_L3N_GC_3, P11 VCCO_4, R10 IO_L9N_CC_GC_4, R11 IO_L9P_CC_GC_4, R12 IO_L6P_GC_4, T11 IO_L8N_CC_GC_4, T12 IO_L6N_GC_4, U8 IO_L3N_GC_D8_4, U9 IO_L5N_GC_4, U10 IO_L5P_GC_4, U11 IO_L8P_CC_GC_4, U12 VCCO_4, U13 IO_L4N_GC_VREF_4, U14 IO_L4P_GC_4, U15 IO_L0P_GC_D15_4, V6 IO_L1N_GC_D12_4, V7 IO_L1P_GC_D13_4, V8 IO_L3P_GC_D9_4, V10 IO_L7N_GC_VRP_4, V11 IO_L7P_GC_VRN_4, V12 IO_L2N_GC_D10_4, V13 IO_L2P_GC_D11_4, V15 IO_L0N_GC_D14_4
part E pins: J9 VREFN_0, J10 VP_0, K9 VN_0, K10 VREFP_0, L9 DXN_0, L10 DXP_0, L11 M1_0, M8 INIT_B_0, M9 TCK_0, N8 CCLK_0, N12 M0_0, N13 M2_0, P8 DONE_0, P15 RDWR_B_0, R7 D_IN_0, R16 CS_B_0, R18 VCCO_0, T6 D_OUT_BUSY_0, T15 VCCO_0, T17 HSWAPEN_0, U5 TDI_0, U6 TDO_0, U18 PROGRAM_B_0, V5 TMS_0
part F pins: A5 GND, A15 GND, B2 GND, B12 GND, B17 GND, C9 GND, D1 GND, D6 GND, D16 GND, E3 GND, E13 GND, E18 GND, F10 GND, G7 GND, G12 VCCAUX, G17 GND, H4 GND, H7 VCCAUX, H8 GND, H9 AVSS_0, H10 AVDD_0, H11 VCCINT, H12 GND, H14 GND, J1 GND, J6 VCCAUX, J7 GND, J8 VCCINT, J11 GND, J12 VCCINT, J13 GND, K6 GND, K7 VCCINT, K8 GND, K11 VCCINT, K12 GND, K13 VCCAUX, K18 GND, L5 GND, L7 GND, L8 VCCINT, L12 VCCINT, L15 GND, M2 GND, M7 VCCAUX, M12 GND, N9 GND, P1 GND, P6 GND, P16 GND, R3 GND, R13 GND, T10 GND, T18 VBATT_0, U2 GND, U7 GND, U17 GND, V4 GND, V14 GND

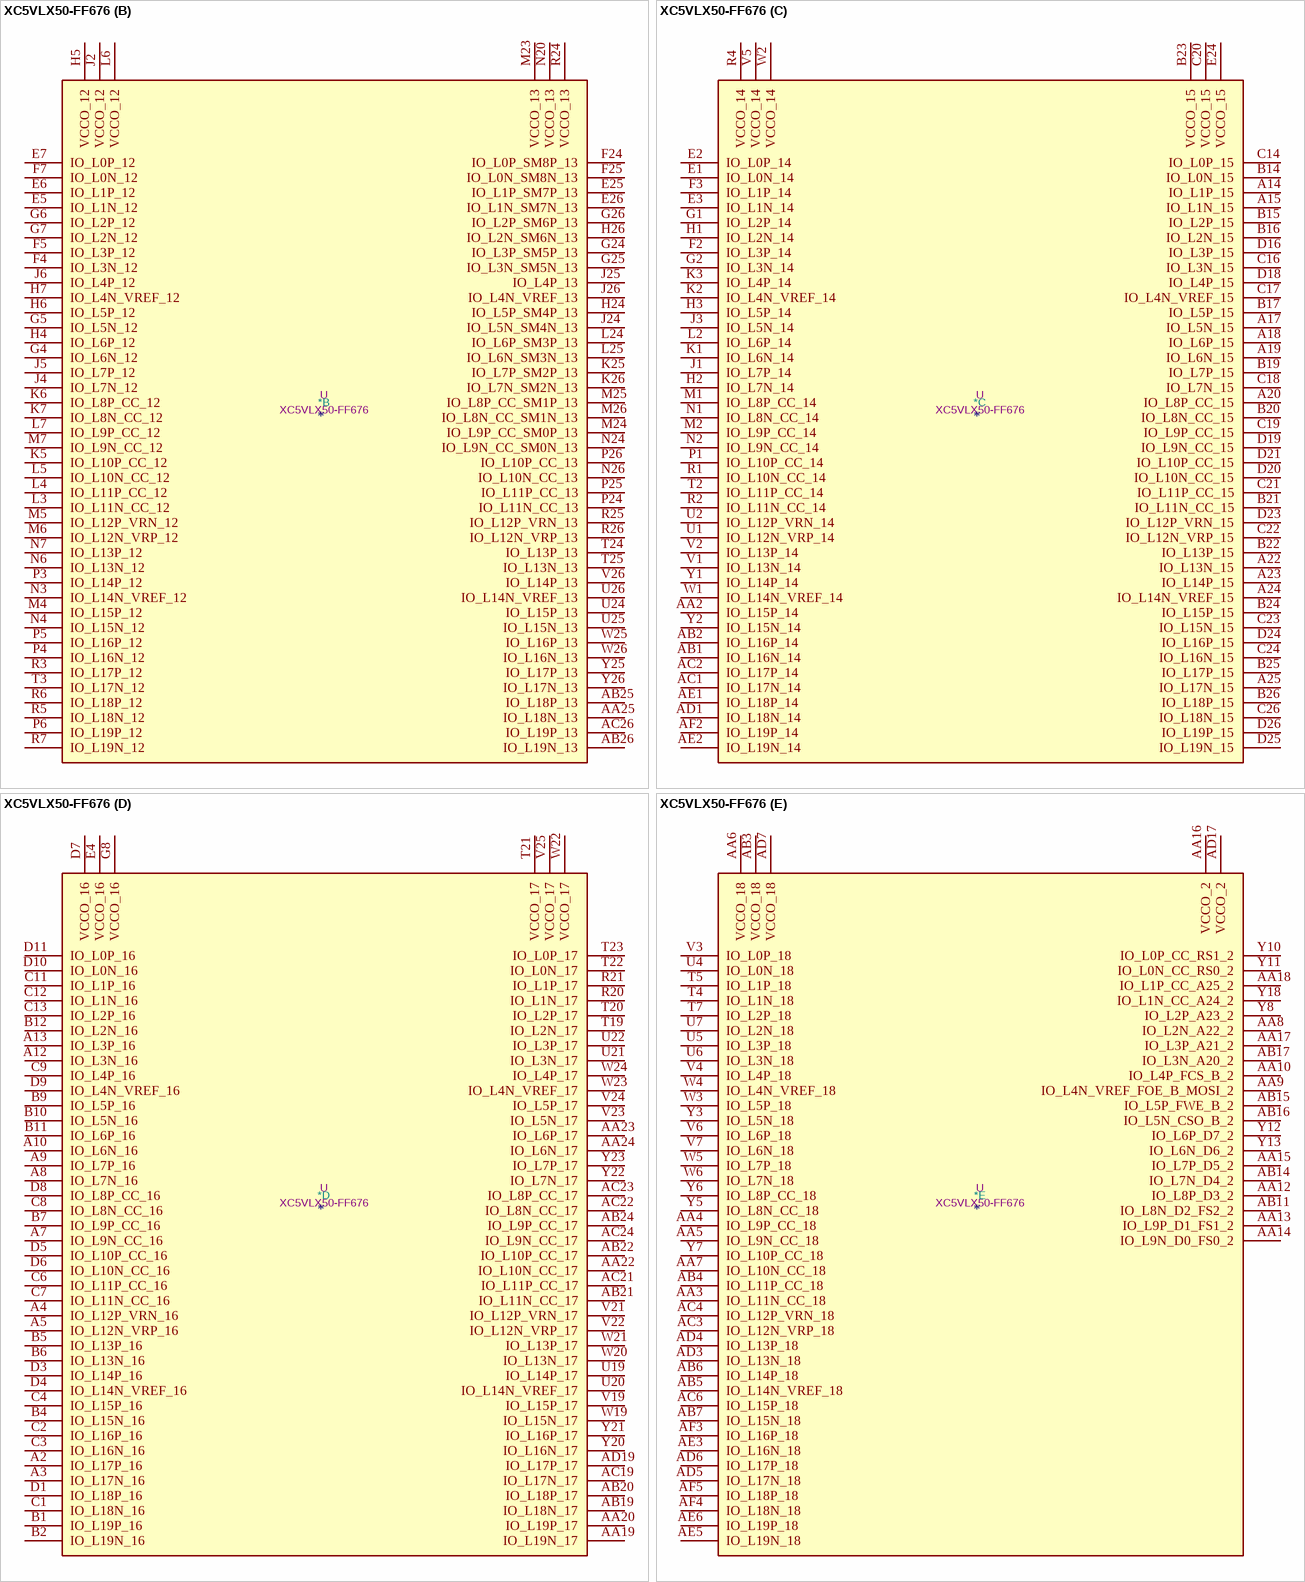
[diagram p36: symbol XC5VLX50-FF676]

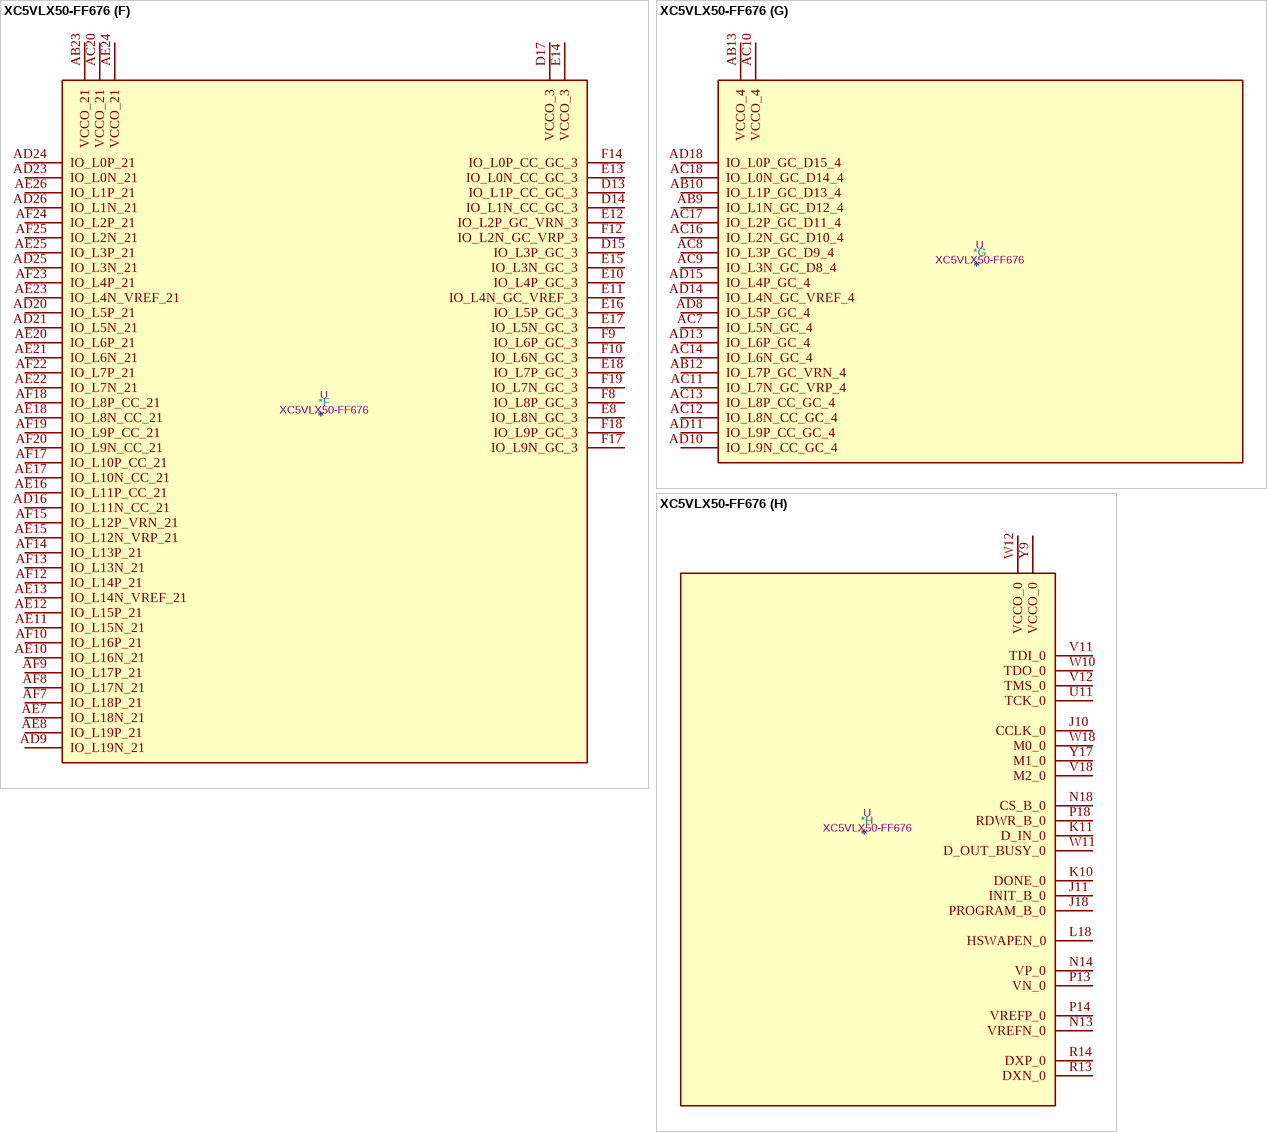
[diagram p37: symbol XC5VLX50-FF676]

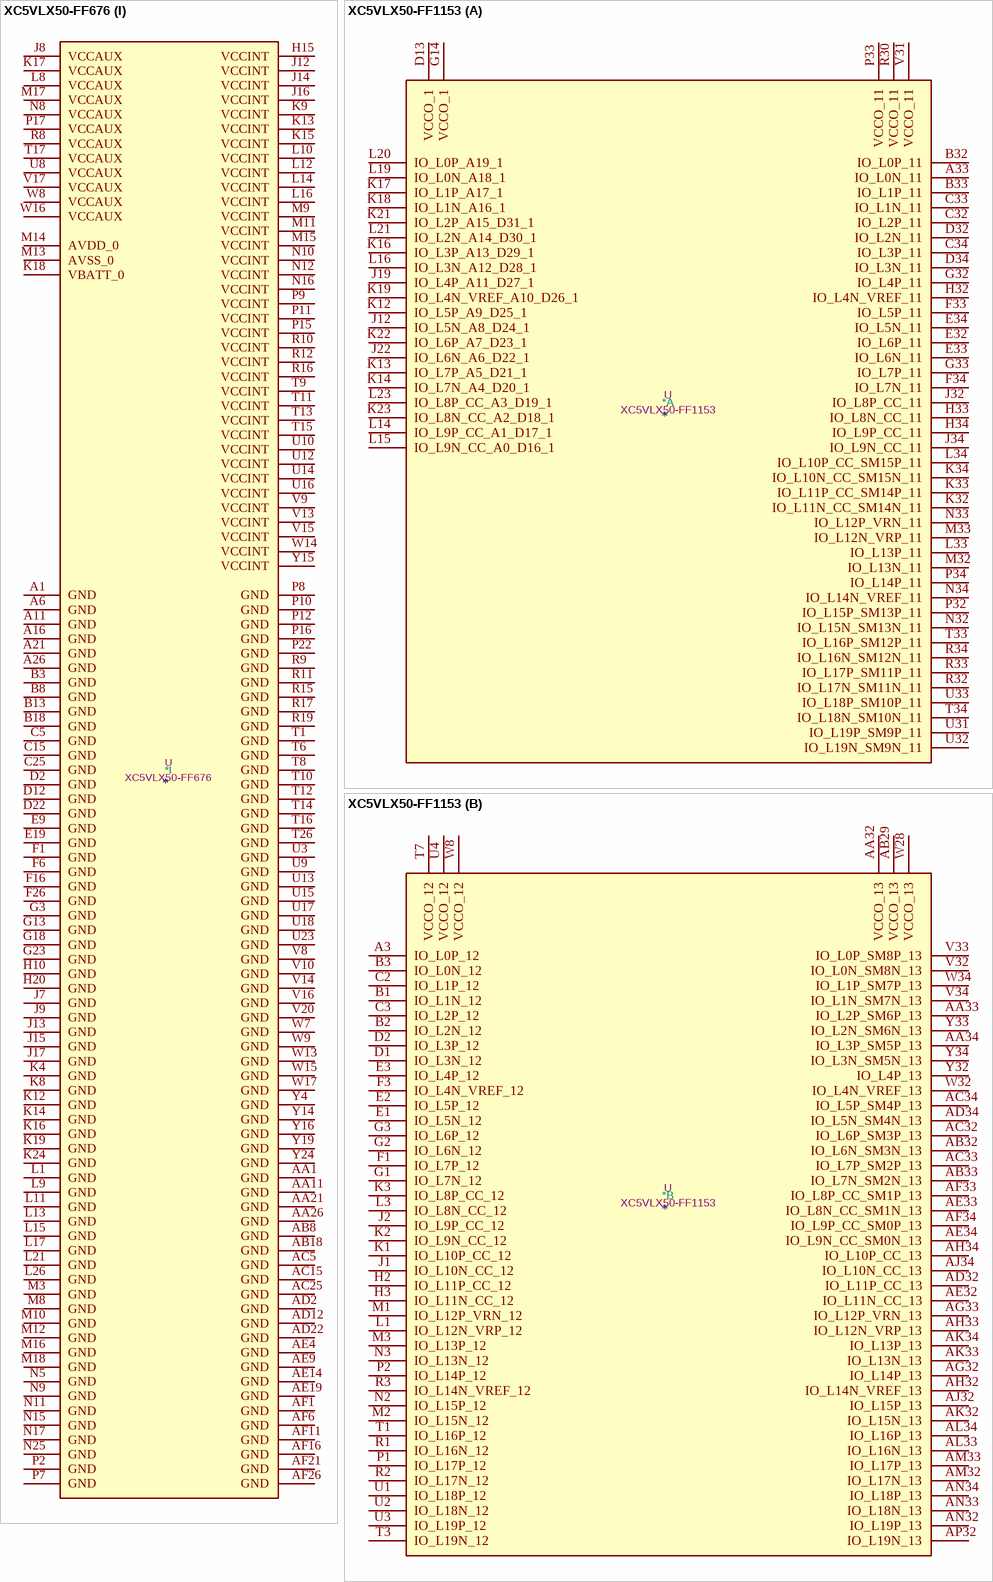
[diagram p38: symbols XC5VLX50-FF676 to XC5VLX50-FF1153]

## XC5VLX50-FF676
designator *  value XC5VLX50-FF676  Reference: U
Virtex 5 LX 50 XC5VLX50-FF676; ki_keywords: FPGA; Description_: Virtex 5 LX 50 XC5VLX50-FF676
part A pins: C10 VCCO_1, E20 IO_L1N_11, E21 IO_L1P_11, E22 IO_L2P_11, E23 IO_L2N_11, F11 VCCO_1, F13 IO_L0N_A18_1, F15 IO_L2P_A15_D31_1, F20 IO_L0N_11, F21 VCCO_11, F22 IO_L3P_11, F23 IO_L3N_11, G9 IO_L7N_A4_D20_1, G10 IO_L7P_A5_D21_1, G11 IO_L5N_A8_D24_1, G12 IO_L3P_A13_D29_1, G14 IO_L0P_A19_1, G15 IO_L2N_A14_D30_1, G16 IO_L4P_A11_D27_1, G17 IO_L6N_A6_D22_1, G19 IO_L8P_CC_A3_D19_1, G20 IO_L0P_11, G21 IO_L4P_11, G22 IO_L4N_VREF_11, H8 IO_L9N_CC_A0_D16_1, H9 IO_L9P_CC_A1_D17_1, H11 IO_L5P_A9_D25_1, H12 IO_L3N_A12_D28_1, H13 IO_L1N_A16_1, H14 IO_L1P_A17_1, H16 IO_L4N_VREF_A10_D26_1, H17 IO_L6P_A7_D23_1, H18 IO_L8N_CC_A2_D18_1, H19 IO_L6N_11, H21 IO_L5P_11, H22 IO_L5N_11, H23 IO_L7P_11, H25 VCCO_11, J19 IO_L6P_11, J20 IO_L8N_CC_11, J21 IO_L8P_CC_11, J22 VCCO_11, J23 IO_L7N_11, K20 IO_L9N_CC_11, K21 IO_L9P_CC_11, K22 IO_L10N_CC_SM15N_11, K23 IO_L10P_CC_SM15P_11, L19 IO_L11N_CC_SM14N_11, L20 IO_L11P_CC_SM14P_11, L22 IO_L12N_VRP_11, L23 IO_L12P_VRN_11, M19 IO_L15N_SM13N_11, M20 IO_L15P_SM13P_11, M21 IO_L13N_11, M22 IO_L13P_11, N19 IO_L14N_VREF_11, N21 IO_L17N_SM11N_11, N22 IO_L17P_SM11P_11, N23 IO_L16N_SM12N_11, P19 IO_L14P_11, P20 IO_L19N_SM9N_11, P21 IO_L19P_SM9P_11, P23 IO_L16P_SM12P_11, R22 IO_L18P_SM10P_11, R23 IO_L18N_SM10N_11
part B pins: AA25 IO_L18N_13, AB25 IO_L18P_13, AB26 IO_L19N_13, AC26 IO_L19P_13, E5 IO_L1N_12, E6 IO_L1P_12, E7 IO_L0P_12, E25 IO_L1P_SM7P_13, E26 IO_L1N_SM7N_13, F4 IO_L3N_12, F5 IO_L3P_12, F7 IO_L0N_12, F24 IO_L0P_SM8P_13, F25 IO_L0N_SM8N_13, G4 IO_L6N_12, G5 IO_L5N_12, G6 IO_L2P_12, G7 IO_L2N_12, G24 IO_L3P_SM5P_13, G25 IO_L3N_SM5N_13, G26 IO_L2P_SM6P_13, H4 IO_L6P_12, H5 VCCO_12, H6 IO_L5P_12, H7 IO_L4N_VREF_12, H24 IO_L5P_SM4P_13, H26 IO_L2N_SM6N_13, J2 VCCO_12, J4 IO_L7N_12, J5 IO_L7P_12, J6 IO_L4P_12, J24 IO_L5N_SM4N_13, J25 IO_L4P_13, J26 IO_L4N_VREF_13, K5 IO_L10P_CC_12, K6 IO_L8P_CC_12, K7 IO_L8N_CC_12, K25 IO_L7P_SM2P_13, K26 IO_L7N_SM2N_13, L3 IO_L11N_CC_12, L4 IO_L11P_CC_12, L5 IO_L10N_CC_12, L6 VCCO_12, L7 IO_L9P_CC_12, L24 IO_L6P_SM3P_13, L25 IO_L6N_SM3N_13, M4 IO_L15P_12, M5 IO_L12P_VRN_12, M6 IO_L12N_VRP_12, M7 IO_L9N_CC_12, M23 VCCO_13, M24 IO_L9P_CC_SM0P_13, M25 IO_L8P_CC_SM1P_13, M26 IO_L8N_CC_SM1N_13, N3 IO_L14N_VREF_12, N4 IO_L15N_12, N6 IO_L13N_12, N7 IO_L13P_12, N20 VCCO_13, N24 IO_L9N_CC_SM0N_13, N26 IO_L10N_CC_13, P3 IO_L14P_12, P4 IO_L16N_12, P5 IO_L16P_12, P6 IO_L19P_12, P24 IO_L11N_CC_13, P25 IO_L11P_CC_13, P26 IO_L10P_CC_13, R3 IO_L17P_12, R5 IO_L18N_12, R6 IO_L18P_12, R7 IO_L19N_12, R24 VCCO_13, R25 IO_L12P_VRN_13, R26 IO_L12N_VRP_13, T3 IO_L17N_12, T24 IO_L13P_13, T25 IO_L13N_13, U24 IO_L15P_13, U25 IO_L15N_13, U26 IO_L14N_VREF_13, V26 IO_L14P_13, W25 IO_L16P_13, W26 IO_L16N_13, Y25 IO_L17P_13, Y26 IO_L17N_13
part C pins: A14 IO_L1P_15, A15 IO_L1N_15, A17 IO_L5N_15, A18 IO_L6P_15, A19 IO_L6N_15, A20 IO_L8P_CC_15, A22 IO_L13N_15, A23 IO_L14P_15, A24 IO_L14N_VREF_15, A25 IO_L17N_15, AA2 IO_L15P_14, AB1 IO_L16N_14, AB2 IO_L16P_14, AC1 IO_L17N_14, AC2 IO_L17P_14, AD1 IO_L18N_14, AE1 IO_L18P_14, AE2 IO_L19N_14, AF2 IO_L19P_14, B14 IO_L0N_15, B15 IO_L2P_15, B16 IO_L2N_15, B17 IO_L5P_15, B19 IO_L7P_15, B20 IO_L8N_CC_15, B21 IO_L11N_CC_15, B22 IO_L13P_15, B23 VCCO_15, B24 IO_L15P_15, B25 IO_L17P_15, B26 IO_L18P_15, C14 IO_L0P_15, C16 IO_L3N_15, C17 IO_L4N_VREF_15, C18 IO_L7N_15, C19 IO_L9P_CC_15, C20 VCCO_15, C21 IO_L11P_CC_15, C22 IO_L12N_VRP_15, C23 IO_L15N_15, C24 IO_L16N_15, C26 IO_L18N_15, D16 IO_L3P_15, D18 IO_L4P_15, D19 IO_L9N_CC_15, D20 IO_L10N_CC_15, D21 IO_L10P_CC_15, D23 IO_L12P_VRN_15, D24 IO_L16P_15, D25 IO_L19N_15, D26 IO_L19P_15, E1 IO_L0N_14, E2 IO_L0P_14, E3 IO_L1N_14, E24 VCCO_15, F2 IO_L3P_14, F3 IO_L1P_14, G1 IO_L2P_14, G2 IO_L3N_14, H1 IO_L2N_14, H2 IO_L7N_14, H3 IO_L5P_14, J1 IO_L7P_14, J3 IO_L5N_14, K1 IO_L6N_14, K2 IO_L4N_VREF_14, K3 IO_L4P_14, L2 IO_L6P_14, M1 IO_L8P_CC_14, M2 IO_L9P_CC_14, N1 IO_L8N_CC_14, N2 IO_L9N_CC_14, P1 IO_L10P_CC_14, R1 IO_L10N_CC_14, R2 IO_L11N_CC_14, R4 VCCO_14, T2 IO_L11P_CC_14, U1 IO_L12N_VRP_14, U2 IO_L12P_VRN_14, V1 IO_L13N_14, V2 IO_L13P_14, V5 VCCO_14, W1 IO_L14N_VREF_14, W2 VCCO_14, Y1 IO_L14P_14, Y2 IO_L15N_14
part D pins: A2 IO_L17P_16, A3 IO_L17N_16, A4 IO_L12P_VRN_16, A5 IO_L12N_VRP_16, A7 IO_L9N_CC_16, A8 IO_L7N_16, A9 IO_L7P_16, A10 IO_L6N_16, A12 IO_L3N_16, A13 IO_L3P_16, AA19 IO_L19N_17, AA20 IO_L19P_17, AA22 IO_L10N_CC_17, AA23 IO_L6P_17, AA24 IO_L6N_17, AB19 IO_L18N_17, AB20 IO_L18P_17, AB21 IO_L11N_CC_17, AB22 IO_L10P_CC_17, AB24 IO_L9P_CC_17, AC19 IO_L17N_17, AC21 IO_L11P_CC_17, AC22 IO_L8N_CC_17, AC23 IO_L8P_CC_17, AC24 IO_L9N_CC_17, AD19 IO_L17P_17, B1 IO_L19P_16, B2 IO_L19N_16, B4 IO_L15N_16, B5 IO_L13P_16, B6 IO_L13N_16, B7 IO_L9P_CC_16, B9 IO_L5P_16, B10 IO_L5N_16, B11 IO_L6P_16, B12 IO_L2N_16, C1 IO_L18N_16, C2 IO_L16P_16, C3 IO_L16N_16, C4 IO_L15P_16, C6 IO_L11P_CC_16, C7 IO_L11N_CC_16, C8 IO_L8N_CC_16, C9 IO_L4P_16, C11 IO_L1P_16, C12 IO_L1N_16, C13 IO_L2P_16, D1 IO_L18P_16, D3 IO_L14P_16, D4 IO_L14N_VREF_16, D5 IO_L10P_CC_16, D6 IO_L10N_CC_16, D7 VCCO_16, D8 IO_L8P_CC_16, D9 IO_L4N_VREF_16, D10 IO_L0N_16, D11 IO_L0P_16, E4 VCCO_16, G8 VCCO_16, R20 IO_L1N_17, R21 IO_L1P_17, T19 IO_L2N_17, T20 IO_L2P_17, T21 VCCO_17, T22 IO_L0N_17, T23 IO_L0P_17, U19 IO_L14P_17, U20 IO_L14N_VREF_17, U21 IO_L3N_17, U22 IO_L3P_17, V19 IO_L15P_17, V21 IO_L12P_VRN_17, V22 IO_L12N_VRP_17, V23 IO_L5N_17, V24 IO_L5P_17, V25 VCCO_17, W19 IO_L15N_17, W20 IO_L13N_17, W21 IO_L13P_17, W22 VCCO_17, W23 IO_L4N_VREF_17, W24 IO_L4P_17, Y20 IO_L16N_17, Y21 IO_L16P_17, Y22 IO_L7N_17, Y23 IO_L7P_17
part E pins: AA3 IO_L11N_CC_18, AA4 IO_L9P_CC_18, AA5 IO_L9N_CC_18, AA6 VCCO_18, AA7 IO_L10N_CC_18, AA8 IO_L2N_A22_2, AA9 IO_L4N_VREF_FOE_B_MOSI_2, AA10 IO_L4P_FCS_B_2, AA12 IO_L8P_D3_2, AA13 IO_L9P_D1_FS1_2, AA14 IO_L9N_D0_FS0_2, AA15 IO_L7P_D5_2, AA16 VCCO_2, AA17 IO_L3P_A21_2, AA18 IO_L1P_CC_A25_2, AB3 VCCO_18, AB4 IO_L11P_CC_18, AB5 IO_L14N_VREF_18, AB6 IO_L14P_18, AB7 IO_L15N_18, AB11 IO_L8N_D2_FS2_2, AB14 IO_L7N_D4_2, AB15 IO_L5P_FWE_B_2, AB16 IO_L5N_CSO_B_2, AB17 IO_L3N_A20_2, AC3 IO_L12N_VRP_18, AC4 IO_L12P_VRN_18, AC6 IO_L15P_18, AD3 IO_L13N_18, AD4 IO_L13P_18, AD5 IO_L17N_18, AD6 IO_L17P_18, AD7 VCCO_18, AD17 VCCO_2, AE3 IO_L16N_18, AE5 IO_L19N_18, AE6 IO_L19P_18, AF3 IO_L16P_18, AF4 IO_L18N_18, AF5 IO_L18P_18, T4 IO_L1N_18, T5 IO_L1P_18, T7 IO_L2P_18, U4 IO_L0N_18, U5 IO_L3P_18, U6 IO_L3N_18, U7 IO_L2N_18, V3 IO_L0P_18, V4 IO_L4P_18, V6 IO_L6P_18, V7 IO_L6N_18, W3 IO_L5P_18, W4 IO_L4N_VREF_18, W5 IO_L7P_18, W6 IO_L7N_18, Y3 IO_L5N_18, Y5 IO_L8N_CC_18, Y6 IO_L8P_CC_18, Y7 IO_L10P_CC_18, Y8 IO_L2P_A23_2, Y10 IO_L0P_CC_RS1_2, Y11 IO_L0N_CC_RS0_2, Y12 IO_L6P_D7_2, Y13 IO_L6N_D6_2, Y18 IO_L1N_CC_A24_2
part F pins: AB23 VCCO_21, AC20 VCCO_21, AD9 IO_L19N_21, AD16 IO_L11N_CC_21, AD20 IO_L5P_21, AD21 IO_L5N_21, AD23 IO_L0N_21, AD24 IO_L0P_21, AD25 IO_L3N_21, AD26 IO_L1N_21, AE7 IO_L18N_21, AE8 IO_L19P_21, AE10 IO_L16N_21, AE11 IO_L15N_21, AE12 IO_L15P_21, AE13 IO_L14N_VREF_21, AE15 IO_L12N_VRP_21, AE16 IO_L11P_CC_21, AE17 IO_L10N_CC_21, AE18 IO_L8N_CC_21, AE20 IO_L6P_21, AE21 IO_L6N_21, AE22 IO_L7N_21, AE23 IO_L4N_VREF_21, AE24 VCCO_21, AE25 IO_L3P_21, AE26 IO_L1P_21, AF7 IO_L18P_21, AF8 IO_L17N_21, AF9 IO_L17P_21, AF10 IO_L16P_21, AF12 IO_L14P_21, AF13 IO_L13N_21, AF14 IO_L13P_21, AF15 IO_L12P_VRN_21, AF17 IO_L10P_CC_21, AF18 IO_L8P_CC_21, AF19 IO_L9P_CC_21, AF20 IO_L9N_CC_21, AF22 IO_L7P_21, AF23 IO_L4P_21, AF24 IO_L2P_21, AF25 IO_L2N_21, D13 IO_L1P_CC_GC_3, D14 IO_L1N_CC_GC_3, D15 IO_L3P_GC_3, D17 VCCO_3, E8 IO_L8N_GC_3, E10 IO_L4P_GC_3, E11 IO_L4N_GC_VREF_3, E12 IO_L2P_GC_VRN_3, E13 IO_L0N_CC_GC_3, E14 VCCO_3, E15 IO_L3N_GC_3, E16 IO_L5P_GC_3, E17 IO_L5N_GC_3, E18 IO_L7P_GC_3, F8 IO_L8P_GC_3, F9 IO_L6P_GC_3, F10 IO_L6N_GC_3, F12 IO_L2N_GC_VRP_3, F14 IO_L0P_CC_GC_3, F17 IO_L9N_GC_3, F18 IO_L9P_GC_3, F19 IO_L7N_GC_3
part G pins: AB9 IO_L1N_GC_D12_4, AB10 IO_L1P_GC_D13_4, AB12 IO_L7P_GC_VRN_4, AB13 VCCO_4, AC7 IO_L5N_GC_4, AC8 IO_L3P_GC_D9_4, AC9 IO_L3N_GC_D8_4, AC10 VCCO_4, AC11 IO_L7N_GC_VRP_4, AC12 IO_L8N_CC_GC_4, AC13 IO_L8P_CC_GC_4, AC14 IO_L6N_GC_4, AC16 IO_L2N_GC_D10_4, AC17 IO_L2P_GC_D11_4, AC18 IO_L0N_GC_D14_4, AD8 IO_L5P_GC_4, AD10 IO_L9N_CC_GC_4, AD11 IO_L9P_CC_GC_4, AD13 IO_L6P_GC_4, AD14 IO_L4N_GC_VREF_4, AD15 IO_L4P_GC_4, AD18 IO_L0P_GC_D15_4
part H pins: J10 CCLK_0, J11 INIT_B_0, J18 PROGRAM_B_0, K10 DONE_0, K11 D_IN_0, L18 HSWAPEN_0, N13 VREFN_0, N14 VP_0, N18 CS_B_0, P13 VN_0, P14 VREFP_0, P18 RDWR_B_0, R13 DXN_0, R14 DXP_0, U11 TCK_0, V11 TDI_0, V12 TMS_0, V18 M2_0, W10 TDO_0, W11 D_OUT_BUSY_0, W12 VCCO_0, W18 M0_0, Y9 VCCO_0, Y17 M1_0
part I pins: A1 GND, A6 GND, A11 GND, A16 GND, A21 GND, A26 GND, AA1 GND, AA11 GND, AA21 GND, AA26 GND, AB8 GND, AB18 GND, AC5 GND, AC15 GND, AC25 GND, AD2 GND, AD12 GND, AD22 GND, AE4 GND, AE9 GND, AE14 GND, AE19 GND, AF1 GND, AF6 GND, AF11 GND, AF16 GND, AF21 GND, AF26 GND, B3 GND, B8 GND, B13 GND, B18 GND, C5 GND, C15 GND, C25 GND, D2 GND, D12 GND, D22 GND, E9 GND, E19 GND, F1 GND, F6 GND, F16 GND, F26 GND, G3 GND, G13 GND, G18 GND, G23 GND, H10 GND, H15 VCCINT, H20 GND, J7 GND, J8 VCCAUX, J9 GND, J12 VCCINT, J13 GND, J14 VCCINT, J15 GND, J16 VCCINT, J17 GND, K4 GND, K8 GND, K9 VCCINT, K12 GND, K13 VCCINT, K14 GND, K15 VCCINT, K16 GND, K17 VCCAUX, K18 VBATT_0, K19 GND, K24 GND, L1 GND, L8 VCCAUX, L9 GND, L10 VCCINT, L11 GND, L12 VCCINT, L13 GND, L14 VCCINT, L15 GND, L16 VCCINT, L17 GND, L21 GND, L26 GND, M3 GND, M8 GND, M9 VCCINT, M10 GND, M11 VCCINT, M12 GND, M13 AVSS_0, M14 AVDD_0, M15 VCCINT, M16 GND, M17 VCCAUX, M18 GND, N5 GND, N8 VCCAUX, N9 GND, N10 VCCINT, N11 GND, N12 VCCINT, N15 GND, N16 VCCINT, N17 GND, N25 GND, P2 GND, P7 GND, P8 GND, P9 VCCINT, P10 GND, P11 VCCINT, P12 GND, P15 VCCINT, P16 GND, P17 VCCAUX, P22 GND, R8 VCCAUX, R9 GND, R10 VCCINT, R11 GND, R12 VCCINT, R15 GND, R16 VCCINT, R17 GND, R19 GND, T1 GND, T6 GND, T8 GND, T9 VCCINT, T10 GND, T11 VCCINT, T12 GND, T13 VCCINT, T14 GND, T15 VCCINT, T16 GND, T17 VCCAUX, T26 GND, U3 GND, U8 VCCAUX, U9 GND, U10 VCCINT, U12 VCCINT, U13 GND, U14 VCCINT, U15 GND, U16 VCCINT, U17 GND, U18 GND, U23 GND, V8 GND, V9 VCCINT, V10 GND, V13 VCCINT, V14 GND, V15 VCCINT, V16 GND, V17 VCCAUX, V20 GND, W7 GND, W8 VCCAUX, W9 GND, W13 GND, W14 VCCINT, W15 GND, W16 VCCAUX, W17 GND, Y4 GND, Y14 GND, Y15 VCCINT, Y16 GND, Y19 GND, Y24 GND

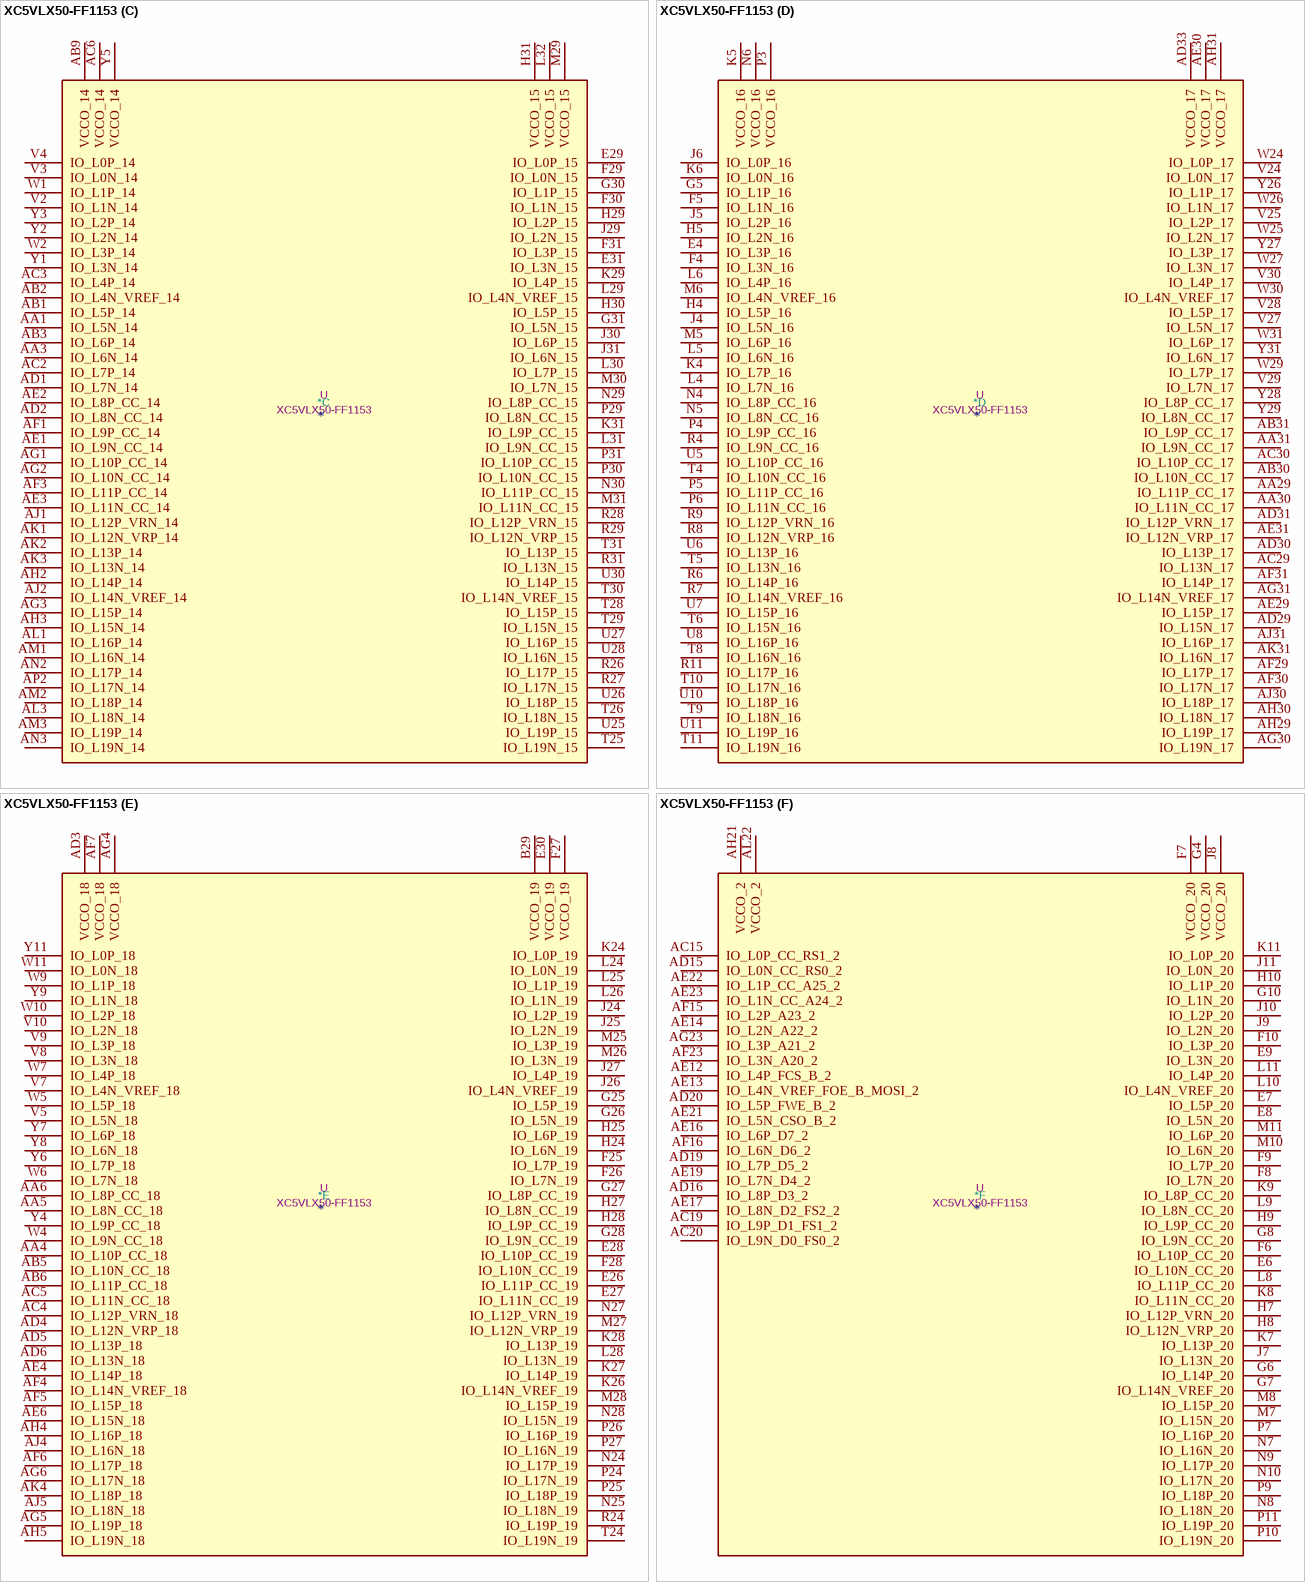
[diagram p39: symbol XC5VLX50-FF1153]

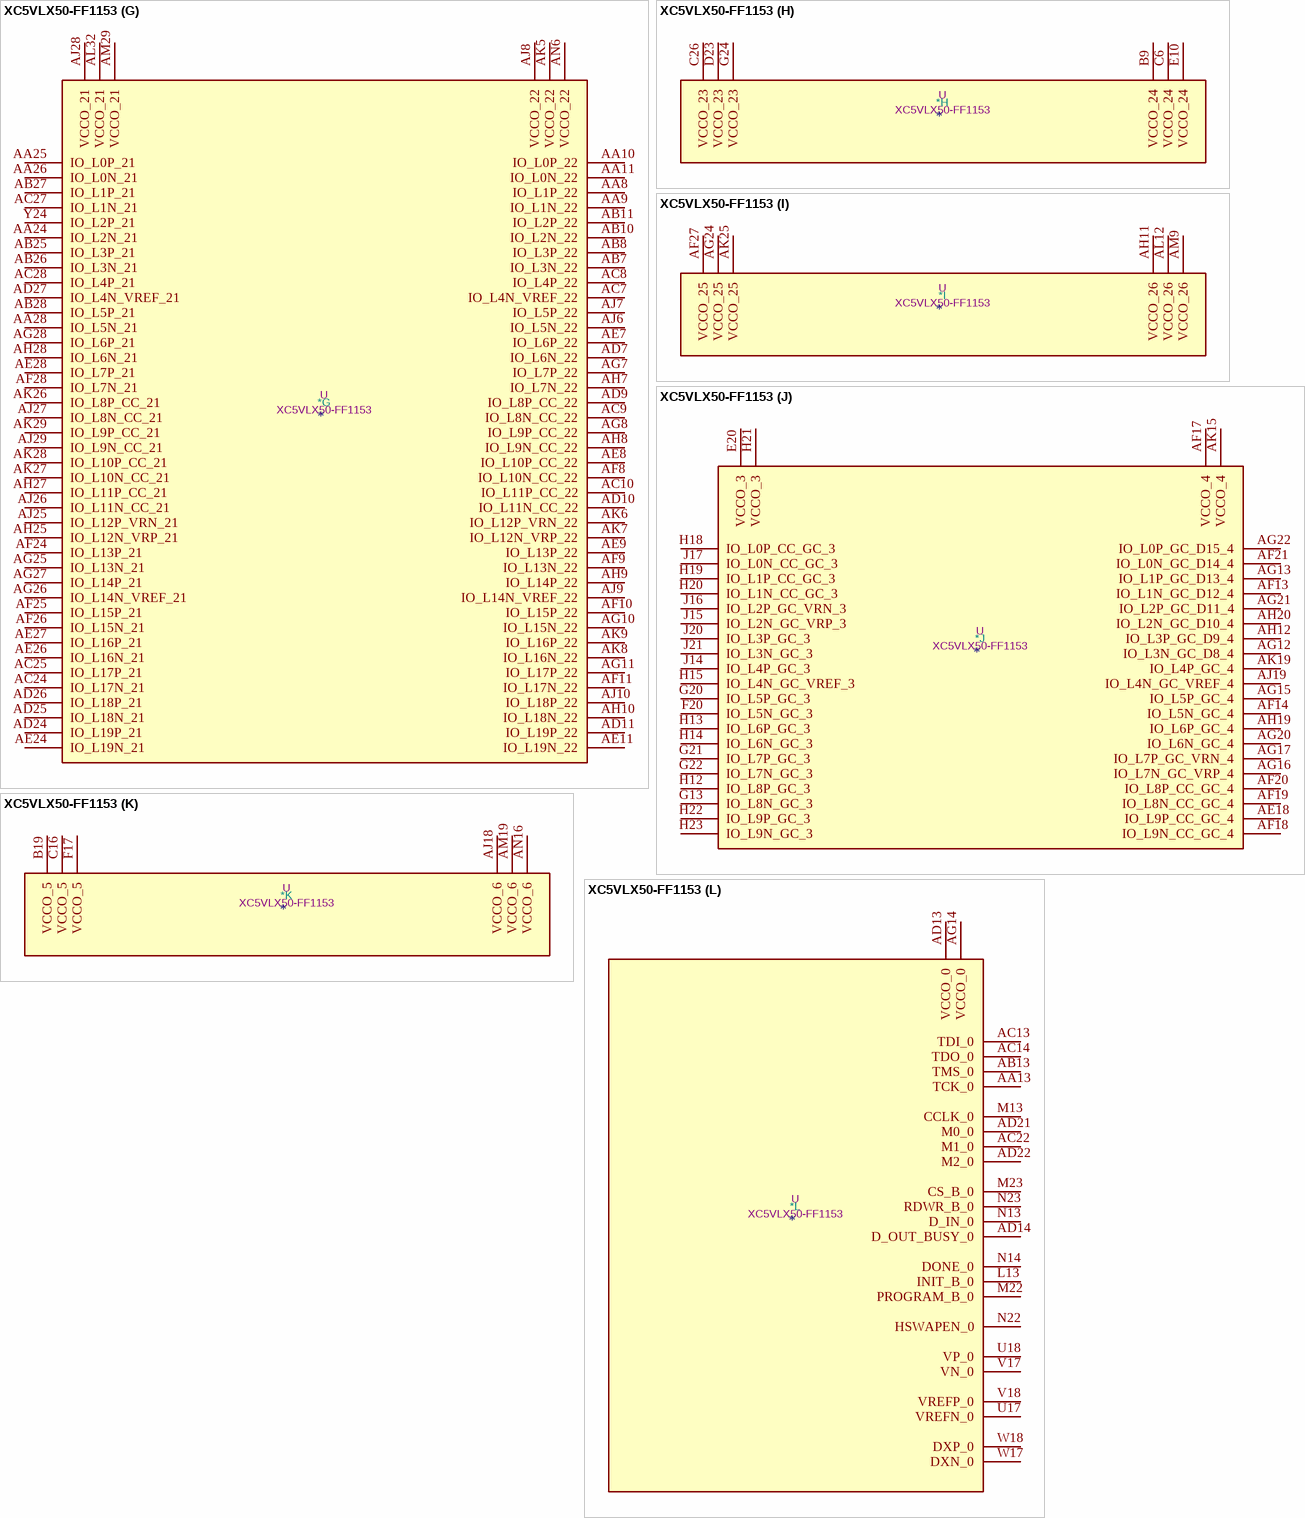
[diagram p40: symbol XC5VLX50-FF1153]

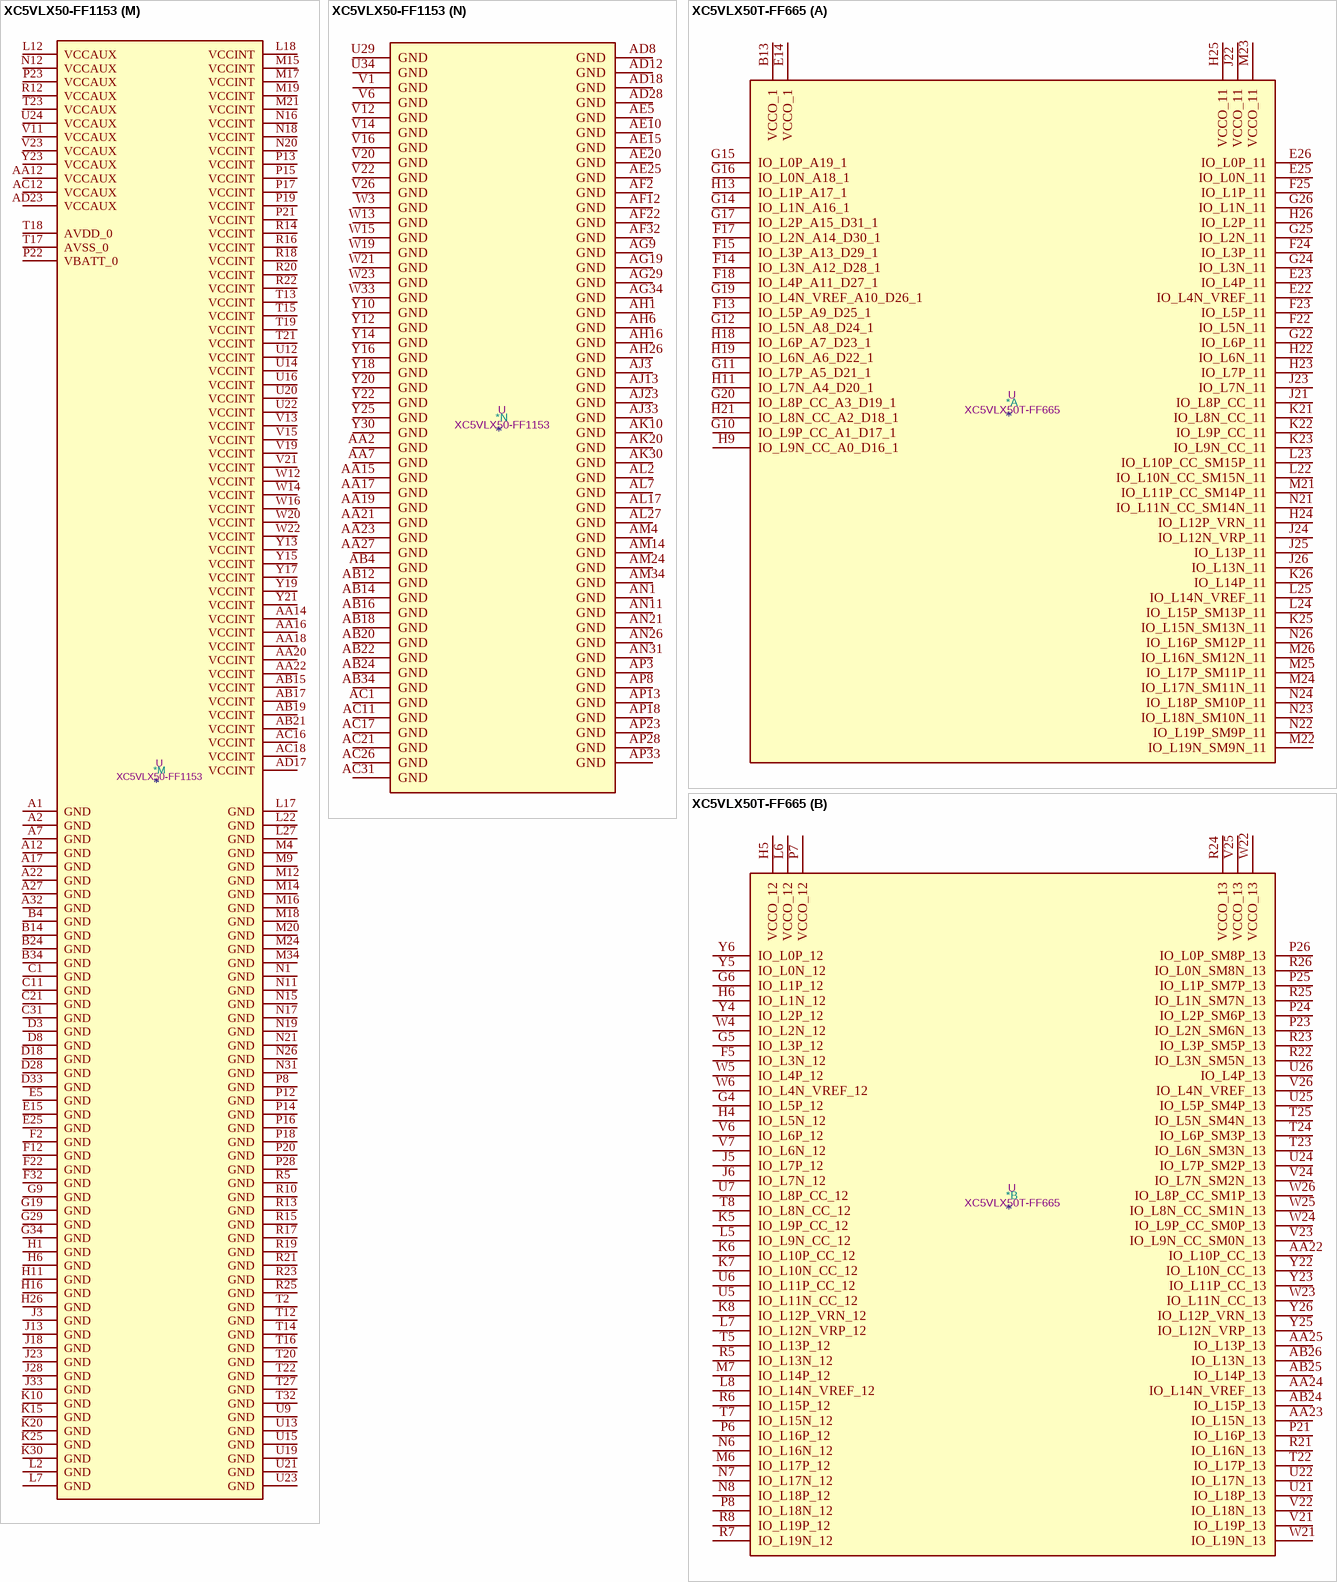
[diagram p41: symbols XC5VLX50-FF1153 to XC5VLX50T-FF665]

## XC5VLX50-FF1153
designator *  value XC5VLX50-FF1153  Reference: U
Virtex 5 LX 50 XC5VLX50-FF1153; ki_keywords: FPGA; Description_: Virtex 5 LX 50 XC5VLX50-FF1153
part A pins: A33 IO_L0N_11, B32 IO_L0P_11, B33 IO_L1P_11, C32 IO_L2P_11, C33 IO_L1N_11, C34 IO_L3P_11, D13 VCCO_1, D32 IO_L2N_11, D34 IO_L3N_11, E32 IO_L6P_11, E33 IO_L6N_11, E34 IO_L5N_11, F33 IO_L5P_11, F34 IO_L7N_11, G14 VCCO_1, G32 IO_L4P_11, G33 IO_L7P_11, H32 IO_L4N_VREF_11, H33 IO_L8N_CC_11, H34 IO_L9P_CC_11, J12 IO_L5N_A8_D24_1, J19 IO_L4P_A11_D27_1, J22 IO_L6N_A6_D22_1, J32 IO_L8P_CC_11, J34 IO_L9N_CC_11, K12 IO_L5P_A9_D25_1, K13 IO_L7P_A5_D21_1, K14 IO_L7N_A4_D20_1, K16 IO_L3P_A13_D29_1, K17 IO_L1P_A17_1, K18 IO_L1N_A16_1, K19 IO_L4N_VREF_A10_D26_1, K21 IO_L2P_A15_D31_1, K22 IO_L6P_A7_D23_1, K23 IO_L8N_CC_A2_D18_1, K32 IO_L11N_CC_SM14N_11, K33 IO_L11P_CC_SM14P_11, K34 IO_L10N_CC_SM15N_11, L14 IO_L9P_CC_A1_D17_1, L15 IO_L9N_CC_A0_D16_1, L16 IO_L3N_A12_D28_1, L19 IO_L0N_A18_1, L20 IO_L0P_A19_1, L21 IO_L2N_A14_D30_1, L23 IO_L8P_CC_A3_D19_1, L33 IO_L13P_11, L34 IO_L10P_CC_SM15P_11, M32 IO_L13N_11, M33 IO_L12N_VRP_11, N32 IO_L15N_SM13N_11, N33 IO_L12P_VRN_11, N34 IO_L14N_VREF_11, P32 IO_L15P_SM13P_11, P33 VCCO_11, P34 IO_L14P_11, R30 VCCO_11, R32 IO_L17N_SM11N_11, R33 IO_L17P_SM11P_11, R34 IO_L16N_SM12N_11, T33 IO_L16P_SM12P_11, T34 IO_L18N_SM10N_11, U31 IO_L19P_SM9P_11, U32 IO_L19N_SM9N_11, U33 IO_L18P_SM10P_11, V31 VCCO_11
part B pins: A3 IO_L0P_12, AA32 VCCO_13, AA33 IO_L2P_SM6P_13, AA34 IO_L3P_SM5P_13, AB29 VCCO_13, AB32 IO_L6N_SM3N_13, AB33 IO_L7N_SM2N_13, AC32 IO_L6P_SM3P_13, AC33 IO_L7P_SM2P_13, AC34 IO_L5P_SM4P_13, AD32 IO_L11P_CC_13, AD34 IO_L5N_SM4N_13, AE32 IO_L11N_CC_13, AE33 IO_L8N_CC_SM1N_13, AE34 IO_L9N_CC_SM0N_13, AF33 IO_L8P_CC_SM1P_13, AF34 IO_L9P_CC_SM0P_13, AG32 IO_L14P_13, AG33 IO_L12P_VRN_13, AH32 IO_L14N_VREF_13, AH33 IO_L12N_VRP_13, AH34 IO_L10P_CC_13, AJ32 IO_L15P_13, AJ34 IO_L10N_CC_13, AK32 IO_L15N_13, AK33 IO_L13N_13, AK34 IO_L13P_13, AL33 IO_L16N_13, AL34 IO_L16P_13, AM32 IO_L17N_13, AM33 IO_L17P_13, AN32 IO_L19P_13, AN33 IO_L18N_13, AN34 IO_L18P_13, AP32 IO_L19N_13, B1 IO_L1N_12, B2 IO_L2N_12, B3 IO_L0N_12, C2 IO_L1P_12, C3 IO_L2P_12, D1 IO_L3N_12, D2 IO_L3P_12, E1 IO_L5N_12, E2 IO_L5P_12, E3 IO_L4P_12, F1 IO_L7P_12, F3 IO_L4N_VREF_12, G1 IO_L7N_12, G2 IO_L6N_12, G3 IO_L6P_12, H2 IO_L11P_CC_12, H3 IO_L11N_CC_12, J1 IO_L10N_CC_12, J2 IO_L9P_CC_12, K1 IO_L10P_CC_12, K2 IO_L9N_CC_12, K3 IO_L8P_CC_12, L1 IO_L12N_VRP_12, L3 IO_L8N_CC_12, M1 IO_L12P_VRN_12, M2 IO_L15N_12, M3 IO_L13P_12, N2 IO_L15P_12, N3 IO_L13N_12, P1 IO_L17P_12, P2 IO_L14P_12, R1 IO_L16N_12, R2 IO_L17N_12, R3 IO_L14N_VREF_12, T1 IO_L16P_12, T3 IO_L19N_12, T7 VCCO_12, U1 IO_L18P_12, U2 IO_L18N_12, U3 IO_L19P_12, U4 VCCO_12, V32 IO_L0N_SM8N_13, V33 IO_L0P_SM8P_13, V34 IO_L1N_SM7N_13, W8 VCCO_12, W28 VCCO_13, W32 IO_L4N_VREF_13, W34 IO_L1P_SM7P_13, Y32 IO_L4P_13, Y33 IO_L2N_SM6N_13, Y34 IO_L3N_SM5N_13
part C pins: AA1 IO_L5N_14, AA3 IO_L6N_14, AB1 IO_L5P_14, AB2 IO_L4N_VREF_14, AB3 IO_L6P_14, AB9 VCCO_14, AC2 IO_L7P_14, AC3 IO_L4P_14, AC6 VCCO_14, AD1 IO_L7N_14, AD2 IO_L8N_CC_14, AE1 IO_L9N_CC_14, AE2 IO_L8P_CC_14, AE3 IO_L11N_CC_14, AF1 IO_L9P_CC_14, AF3 IO_L11P_CC_14, AG1 IO_L10P_CC_14, AG2 IO_L10N_CC_14, AG3 IO_L15P_14, AH2 IO_L14P_14, AH3 IO_L15N_14, AJ1 IO_L12P_VRN_14, AJ2 IO_L14N_VREF_14, AK1 IO_L12N_VRP_14, AK2 IO_L13P_14, AK3 IO_L13N_14, AL1 IO_L16P_14, AL3 IO_L18N_14, AM1 IO_L16N_14, AM2 IO_L18P_14, AM3 IO_L19P_14, AN2 IO_L17P_14, AN3 IO_L19N_14, AP2 IO_L17N_14, E29 IO_L0P_15, E31 IO_L3N_15, F29 IO_L0N_15, F30 IO_L1N_15, F31 IO_L3P_15, G30 IO_L1P_15, G31 IO_L5N_15, H29 IO_L2P_15, H30 IO_L5P_15, H31 VCCO_15, J29 IO_L2N_15, J30 IO_L6P_15, J31 IO_L6N_15, K29 IO_L4P_15, K31 IO_L9P_CC_15, L29 IO_L4N_VREF_15, L30 IO_L7P_15, L31 IO_L9N_CC_15, L32 VCCO_15, M29 VCCO_15, M30 IO_L7N_15, M31 IO_L11N_CC_15, N29 IO_L8P_CC_15, N30 IO_L11P_CC_15, P29 IO_L8N_CC_15, P30 IO_L10N_CC_15, P31 IO_L10P_CC_15, R26 IO_L17P_15, R27 IO_L17N_15, R28 IO_L12P_VRN_15, R29 IO_L12N_VRP_15, R31 IO_L13N_15, T25 IO_L19N_15, T26 IO_L18N_15, T28 IO_L15P_15, T29 IO_L15N_15, T30 IO_L14N_VREF_15, T31 IO_L13P_15, U25 IO_L19P_15, U26 IO_L18P_15, U27 IO_L16P_15, U28 IO_L16N_15, U30 IO_L14P_15, V2 IO_L1N_14, V3 IO_L0N_14, V4 IO_L0P_14, W1 IO_L1P_14, W2 IO_L3P_14, Y1 IO_L3N_14, Y2 IO_L2N_14, Y3 IO_L2P_14, Y5 VCCO_14
part D pins: AA29 IO_L11P_CC_17, AA30 IO_L11N_CC_17, AA31 IO_L9N_CC_17, AB30 IO_L10N_CC_17, AB31 IO_L9P_CC_17, AC29 IO_L13N_17, AC30 IO_L10P_CC_17, AD29 IO_L15N_17, AD30 IO_L13P_17, AD31 IO_L12P_VRN_17, AD33 VCCO_17, AE29 IO_L15P_17, AE30 VCCO_17, AE31 IO_L12N_VRP_17, AF29 IO_L17P_17, AF30 IO_L17N_17, AF31 IO_L14P_17, AG30 IO_L19N_17, AG31 IO_L14N_VREF_17, AH29 IO_L19P_17, AH30 IO_L18N_17, AH31 VCCO_17, AJ30 IO_L18P_17, AJ31 IO_L16P_17, AK31 IO_L16N_17, E4 IO_L3P_16, F4 IO_L3N_16, F5 IO_L1N_16, G5 IO_L1P_16, H4 IO_L5P_16, H5 IO_L2N_16, J4 IO_L5N_16, J5 IO_L2P_16, J6 IO_L0P_16, K4 IO_L7P_16, K5 VCCO_16, K6 IO_L0N_16, L4 IO_L7N_16, L5 IO_L6N_16, L6 IO_L4P_16, M5 IO_L6P_16, M6 IO_L4N_VREF_16, N4 IO_L8P_CC_16, N5 IO_L8N_CC_16, N6 VCCO_16, P3 VCCO_16, P4 IO_L9P_CC_16, P5 IO_L11P_CC_16, P6 IO_L11N_CC_16, R4 IO_L9N_CC_16, R6 IO_L14P_16, R7 IO_L14N_VREF_16, R8 IO_L12N_VRP_16, R9 IO_L12P_VRN_16, R11 IO_L17P_16, T4 IO_L10N_CC_16, T5 IO_L13N_16, T6 IO_L15N_16, T8 IO_L16N_16, T9 IO_L18N_16, T10 IO_L17N_16, T11 IO_L19N_16, U5 IO_L10P_CC_16, U6 IO_L13P_16, U7 IO_L15P_16, U8 IO_L16P_16, U10 IO_L18P_16, U11 IO_L19P_16, V24 IO_L0N_17, V25 IO_L2P_17, V27 IO_L5N_17, V28 IO_L5P_17, V29 IO_L7N_17, V30 IO_L4P_17, W24 IO_L0P_17, W25 IO_L2N_17, W26 IO_L1N_17, W27 IO_L3N_17, W29 IO_L7P_17, W30 IO_L4N_VREF_17, W31 IO_L6P_17, Y26 IO_L1P_17, Y27 IO_L3P_17, Y28 IO_L8P_CC_17, Y29 IO_L8N_CC_17, Y31 IO_L6N_17
part E pins: AA4 IO_L10P_CC_18, AA5 IO_L8N_CC_18, AA6 IO_L8P_CC_18, AB5 IO_L10N_CC_18, AB6 IO_L11P_CC_18, AC4 IO_L12P_VRN_18, AC5 IO_L11N_CC_18, AD3 VCCO_18, AD4 IO_L12N_VRP_18, AD5 IO_L13P_18, AD6 IO_L13N_18, AE4 IO_L14P_18, AE6 IO_L15N_18, AF4 IO_L14N_VREF_18, AF5 IO_L15P_18, AF6 IO_L17P_18, AF7 VCCO_18, AG4 VCCO_18, AG5 IO_L19P_18, AG6 IO_L17N_18, AH4 IO_L16P_18, AH5 IO_L19N_18, AJ4 IO_L16N_18, AJ5 IO_L18N_18, AK4 IO_L18P_18, B29 VCCO_19, E26 IO_L11P_CC_19, E27 IO_L11N_CC_19, E28 IO_L10P_CC_19, E30 VCCO_19, F25 IO_L7P_19, F26 IO_L7N_19, F27 VCCO_19, F28 IO_L10N_CC_19, G25 IO_L5P_19, G26 IO_L5N_19, G27 IO_L8P_CC_19, G28 IO_L9N_CC_19, H24 IO_L6N_19, H25 IO_L6P_19, H27 IO_L8N_CC_19, H28 IO_L9P_CC_19, J24 IO_L2P_19, J25 IO_L2N_19, J26 IO_L4N_VREF_19, J27 IO_L4P_19, K24 IO_L0P_19, K26 IO_L14N_VREF_19, K27 IO_L14P_19, K28 IO_L13P_19, L24 IO_L0N_19, L25 IO_L1P_19, L26 IO_L1N_19, L28 IO_L13N_19, M25 IO_L3P_19, M26 IO_L3N_19, M27 IO_L12N_VRP_19, M28 IO_L15P_19, N24 IO_L17P_19, N25 IO_L18N_19, N27 IO_L12P_VRN_19, N28 IO_L15N_19, P24 IO_L17N_19, P25 IO_L18P_19, P26 IO_L16P_19, P27 IO_L16N_19, R24 IO_L19P_19, T24 IO_L19N_19, V5 IO_L5N_18, V7 IO_L4N_VREF_18, V8 IO_L3N_18, V9 IO_L3P_18, V10 IO_L2N_18, W4 IO_L9N_CC_18, W5 IO_L5P_18, W6 IO_L7N_18, W7 IO_L4P_18, W9 IO_L1P_18, W10 IO_L2P_18, W11 IO_L0N_18, Y4 IO_L9P_CC_18, Y6 IO_L7P_18, Y7 IO_L6P_18, Y8 IO_L6N_18, Y9 IO_L1N_18, Y11 IO_L0P_18
part F pins: AC15 IO_L0P_CC_RS1_2, AC19 IO_L9P_D1_FS1_2, AC20 IO_L9N_D0_FS0_2, AD15 IO_L0N_CC_RS0_2, AD16 IO_L8P_D3_2, AD19 IO_L7P_D5_2, AD20 IO_L5P_FWE_B_2, AE12 IO_L4P_FCS_B_2, AE13 IO_L4N_VREF_FOE_B_MOSI_2, AE14 IO_L2N_A22_2, AE16 IO_L6P_D7_2, AE17 IO_L8N_D2_FS2_2, AE19 IO_L7N_D4_2, AE21 IO_L5N_CSO_B_2, AE22 IO_L1P_CC_A25_2, AE23 IO_L1N_CC_A24_2, AF15 IO_L2P_A23_2, AF16 IO_L6N_D6_2, AF23 IO_L3N_A20_2, AG23 IO_L3P_A21_2, AH21 VCCO_2, AL22 VCCO_2, E6 IO_L10N_CC_20, E7 IO_L5P_20, E8 IO_L5N_20, E9 IO_L3N_20, F6 IO_L10P_CC_20, F7 VCCO_20, F8 IO_L7N_20, F9 IO_L7P_20, F10 IO_L3P_20, G4 VCCO_20, G6 IO_L14P_20, G7 IO_L14N_VREF_20, G8 IO_L9N_CC_20, G10 IO_L1N_20, H7 IO_L12P_VRN_20, H8 IO_L12N_VRP_20, H9 IO_L9P_CC_20, H10 IO_L1P_20, J7 IO_L13N_20, J8 VCCO_20, J9 IO_L2N_20, J10 IO_L2P_20, J11 IO_L0N_20, K7 IO_L13P_20, K8 IO_L11N_CC_20, K9 IO_L8P_CC_20, K11 IO_L0P_20, L8 IO_L11P_CC_20, L9 IO_L8N_CC_20, L10 IO_L4N_VREF_20, L11 IO_L4P_20, M7 IO_L15N_20, M8 IO_L15P_20, M10 IO_L6N_20, M11 IO_L6P_20, N7 IO_L16N_20, N8 IO_L18N_20, N9 IO_L17P_20, N10 IO_L17N_20, P7 IO_L16P_20, P9 IO_L18P_20, P10 IO_L19N_20, P11 IO_L19P_20
part G pins: AA8 IO_L1P_22, AA9 IO_L1N_22, AA10 IO_L0P_22, AA11 IO_L0N_22, AA24 IO_L2N_21, AA25 IO_L0P_21, AA26 IO_L0N_21, AA28 IO_L5N_21, AB7 IO_L3N_22, AB8 IO_L3P_22, AB10 IO_L2N_22, AB11 IO_L2P_22, AB25 IO_L3P_21, AB26 IO_L3N_21, AB27 IO_L1P_21, AB28 IO_L5P_21, AC7 IO_L4N_VREF_22, AC8 IO_L4P_22, AC9 IO_L8N_CC_22, AC10 IO_L11P_CC_22, AC24 IO_L17N_21, AC25 IO_L17P_21, AC27 IO_L1N_21, AC28 IO_L4P_21, AD7 IO_L6N_22, AD9 IO_L8P_CC_22, AD10 IO_L11N_CC_22, AD11 IO_L19P_22, AD24 IO_L19P_21, AD25 IO_L18N_21, AD26 IO_L18P_21, AD27 IO_L4N_VREF_21, AE7 IO_L6P_22, AE8 IO_L10P_CC_22, AE9 IO_L13P_22, AE11 IO_L19N_22, AE24 IO_L19N_21, AE26 IO_L16N_21, AE27 IO_L16P_21, AE28 IO_L7P_21, AF8 IO_L10N_CC_22, AF9 IO_L13N_22, AF10 IO_L15P_22, AF11 IO_L17N_22, AF24 IO_L13P_21, AF25 IO_L15P_21, AF26 IO_L15N_21, AF28 IO_L7N_21, AG7 IO_L7P_22, AG8 IO_L9P_CC_22, AG10 IO_L15N_22, AG11 IO_L17P_22, AG25 IO_L13N_21, AG26 IO_L14N_VREF_21, AG27 IO_L14P_21, AG28 IO_L6P_21, AH7 IO_L7N_22, AH8 IO_L9N_CC_22, AH9 IO_L14P_22, AH10 IO_L18N_22, AH25 IO_L12N_VRP_21, AH27 IO_L11P_CC_21, AH28 IO_L6N_21, AJ6 IO_L5N_22, AJ7 IO_L5P_22, AJ8 VCCO_22, AJ9 IO_L14N_VREF_22, AJ10 IO_L18P_22, AJ25 IO_L12P_VRN_21, AJ26 IO_L11N_CC_21, AJ27 IO_L8N_CC_21, AJ28 VCCO_21, AJ29 IO_L9N_CC_21, AK5 VCCO_22, AK6 IO_L12P_VRN_22, AK7 IO_L12N_VRP_22, AK8 IO_L16N_22, AK9 IO_L16P_22, AK26 IO_L8P_CC_21, AK27 IO_L10N_CC_21, AK28 IO_L10P_CC_21, AK29 IO_L9P_CC_21, AL32 VCCO_21, AM29 VCCO_21, AN6 VCCO_22, Y24 IO_L2P_21
part H pins: B9 VCCO_24, C6 VCCO_24, C26 VCCO_23, D23 VCCO_23, E10 VCCO_24, G24 VCCO_23
part I pins: AF27 VCCO_25, AG24 VCCO_25, AH11 VCCO_26, AK25 VCCO_25, AL12 VCCO_26, AM9 VCCO_26
part J pins: AE18 IO_L9P_CC_GC_4, AF13 IO_L1N_GC_D12_4, AF14 IO_L5N_GC_4, AF17 VCCO_4, AF18 IO_L9N_CC_GC_4, AF19 IO_L8N_CC_GC_4, AF20 IO_L8P_CC_GC_4, AF21 IO_L0N_GC_D14_4, AG12 IO_L3N_GC_D8_4, AG13 IO_L1P_GC_D13_4, AG15 IO_L5P_GC_4, AG16 IO_L7N_GC_VRP_4, AG17 IO_L7P_GC_VRN_4, AG20 IO_L6N_GC_4, AG21 IO_L2P_GC_D11_4, AG22 IO_L0P_GC_D15_4, AH12 IO_L3P_GC_D9_4, AH19 IO_L6P_GC_4, AH20 IO_L2N_GC_D10_4, AJ19 IO_L4N_GC_VREF_4, AK15 VCCO_4, AK19 IO_L4P_GC_4, E20 VCCO_3, F20 IO_L5N_GC_3, G13 IO_L8N_GC_3, G20 IO_L5P_GC_3, G21 IO_L7P_GC_3, G22 IO_L7N_GC_3, H12 IO_L8P_GC_3, H13 IO_L6P_GC_3, H14 IO_L6N_GC_3, H15 IO_L4N_GC_VREF_3, H18 IO_L0P_CC_GC_3, H19 IO_L1P_CC_GC_3, H20 IO_L1N_CC_GC_3, H21 VCCO_3, H22 IO_L9P_GC_3, H23 IO_L9N_GC_3, J14 IO_L4P_GC_3, J15 IO_L2N_GC_VRP_3, J16 IO_L2P_GC_VRN_3, J17 IO_L0N_CC_GC_3, J20 IO_L3P_GC_3, J21 IO_L3N_GC_3
part K pins: AJ18 VCCO_6, AM19 VCCO_6, AN16 VCCO_6, B19 VCCO_5, C16 VCCO_5, F17 VCCO_5
part L pins: AA13 TCK_0, AB13 TMS_0, AC13 TDI_0, AC14 TDO_0, AC22 M1_0, AD13 VCCO_0, AD14 D_OUT_BUSY_0, AD21 M0_0, AD22 M2_0, AG14 VCCO_0, L13 INIT_B_0, M13 CCLK_0, M22 PROGRAM_B_0, M23 CS_B_0, N13 D_IN_0, N14 DONE_0, N22 HSWAPEN_0, N23 RDWR_B_0, U17 VREFN_0, U18 VP_0, V17 VN_0, V18 VREFP_0, W17 DXN_0, W18 DXP_0
part M pins: A1 GND, A2 GND, A7 GND, A12 GND, A17 GND, A22 GND, A27 GND, A32 GND, AA12 VCCAUX, AA14 VCCINT, AA16 VCCINT, AA18 VCCINT, AA20 VCCINT, AA22 VCCINT, AB15 VCCINT, AB17 VCCINT, AB19 VCCINT, AB21 VCCINT, AC12 VCCAUX, AC16 VCCINT, AC18 VCCINT, AD17 VCCINT, AD23 VCCAUX, B4 GND, B14 GND, B24 GND, B34 GND, C1 GND, C11 GND, C21 GND, C31 GND, D3 GND, D8 GND, D18 GND, D28 GND, D33 GND, E5 GND, E15 GND, E25 GND, F2 GND, F12 GND, F22 GND, F32 GND, G9 GND, G19 GND, G29 GND, G34 GND, H1 GND, H6 GND, H11 GND, H16 GND, H26 GND, J3 GND, J13 GND, J18 GND, J23 GND, J28 GND, J33 GND, K10 GND, K15 GND, K20 GND, K25 GND, K30 GND, L2 GND, L7 GND, L12 VCCAUX, L17 GND, L18 VCCINT, L22 GND, L27 GND, M4 GND, M9 GND, M12 GND, M14 GND, M15 VCCINT, M16 GND, M17 VCCINT, M18 GND, M19 VCCINT, M20 GND, M21 VCCINT, M24 GND, M34 GND, N1 GND, N11 GND, N12 VCCAUX, N15 GND, N16 VCCINT, N17 GND, N18 VCCINT, N19 GND, N20 VCCINT, N21 GND, N26 GND, N31 GND, P8 GND, P12 GND, P13 VCCINT, P14 GND, P15 VCCINT, P16 GND, P17 VCCINT, P18 GND, P19 VCCINT, P20 GND, P21 VCCINT, P22 VBATT_0, P23 VCCAUX, P28 GND, R5 GND, R10 GND, R12 VCCAUX, R13 GND, R14 VCCINT, R15 GND, R16 VCCINT, R17 GND, R18 VCCINT, R19 GND, R20 VCCINT, R21 GND, R22 VCCINT, R23 GND, R25 GND, T2 GND, T12 GND, T13 VCCINT, T14 GND, T15 VCCINT, T16 GND, T17 AVSS_0, T18 AVDD_0, T19 VCCINT, T20 GND, T21 VCCINT, T22 GND, T23 VCCAUX, T27 GND, T32 GND, U9 GND, U12 VCCINT, U13 GND, U14 VCCINT, U15 GND, U16 VCCINT, U19 GND, U20 VCCINT, U21 GND, U22 VCCINT, U23 GND, U24 VCCAUX, V11 VCCAUX, V13 VCCINT, V15 VCCINT, V19 VCCINT, V21 VCCINT, V23 VCCAUX, W12 VCCINT, W14 VCCINT, W16 VCCINT, W20 VCCINT, W22 VCCINT, Y13 VCCINT, Y15 VCCINT, Y17 VCCINT, Y19 VCCINT, Y21 VCCINT, Y23 VCCAUX
part N pins: AA2 GND, AA7 GND, AA15 GND, AA17 GND, AA19 GND, AA21 GND, AA23 GND, AA27 GND, AB4 GND, AB12 GND, AB14 GND, AB16 GND, AB18 GND, AB20 GND, AB22 GND, AB24 GND, AB34 GND, AC1 GND, AC11 GND, AC17 GND, AC21 GND, AC26 GND, AC31 GND, AD8 GND, AD12 GND, AD18 GND, AD28 GND, AE5 GND, AE10 GND, AE15 GND, AE20 GND, AE25 GND, AF2 GND, AF12 GND, AF22 GND, AF32 GND, AG9 GND, AG19 GND, AG29 GND, AG34 GND, AH1 GND, AH6 GND, AH16 GND, AH26 GND, AJ3 GND, AJ13 GND, AJ23 GND, AJ33 GND, AK10 GND, AK20 GND, AK30 GND, AL2 GND, AL7 GND, AL17 GND, AL27 GND, AM4 GND, AM14 GND, AM24 GND, AM34 GND, AN1 GND, AN11 GND, AN21 GND, AN26 GND, AN31 GND, AP3 GND, AP8 GND, AP13 GND, AP18 GND, AP23 GND, AP28 GND, AP33 GND, U29 GND, U34 GND, V1 GND, V6 GND, V12 GND, V14 GND, V16 GND, V20 GND, V22 GND, V26 GND, W3 GND, W13 GND, W15 GND, W19 GND, W21 GND, W23 GND, W33 GND, Y10 GND, Y12 GND, Y14 GND, Y16 GND, Y18 GND, Y20 GND, Y22 GND, Y25 GND, Y30 GND

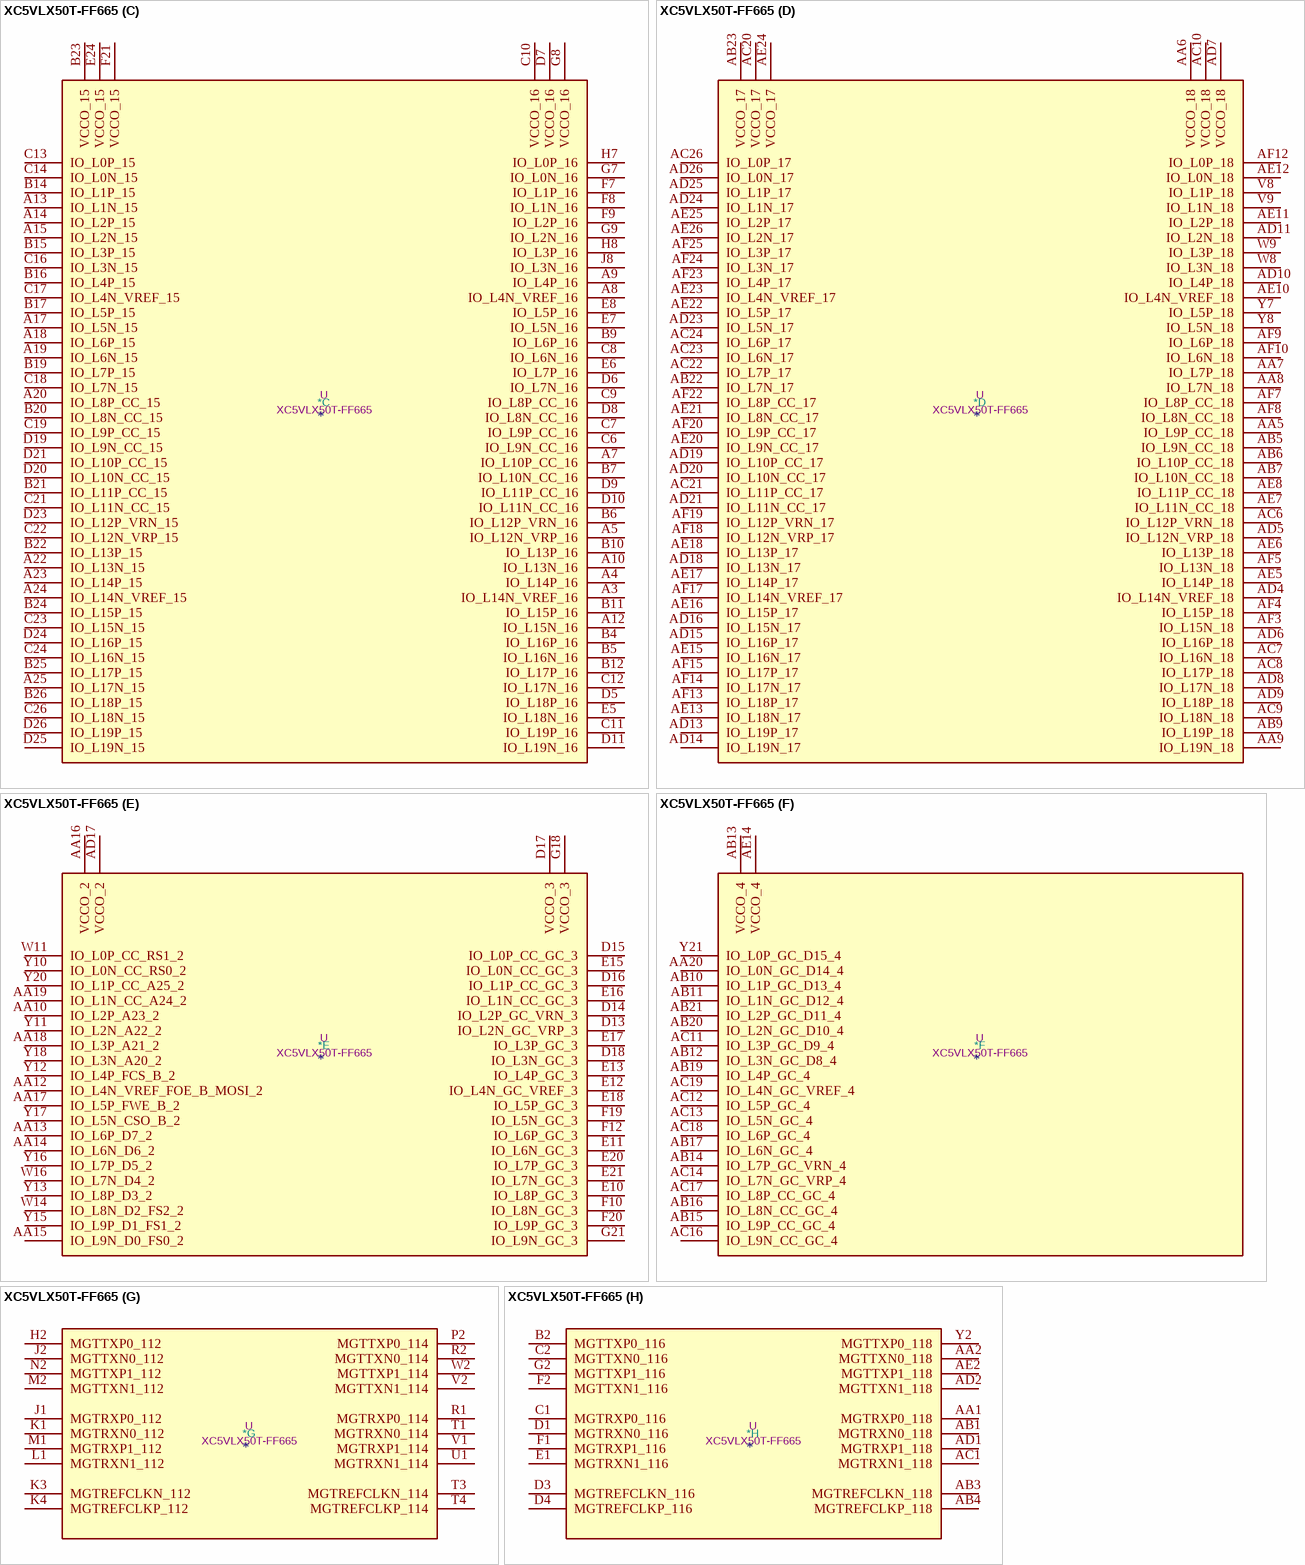
[diagram p42: symbol XC5VLX50T-FF665]

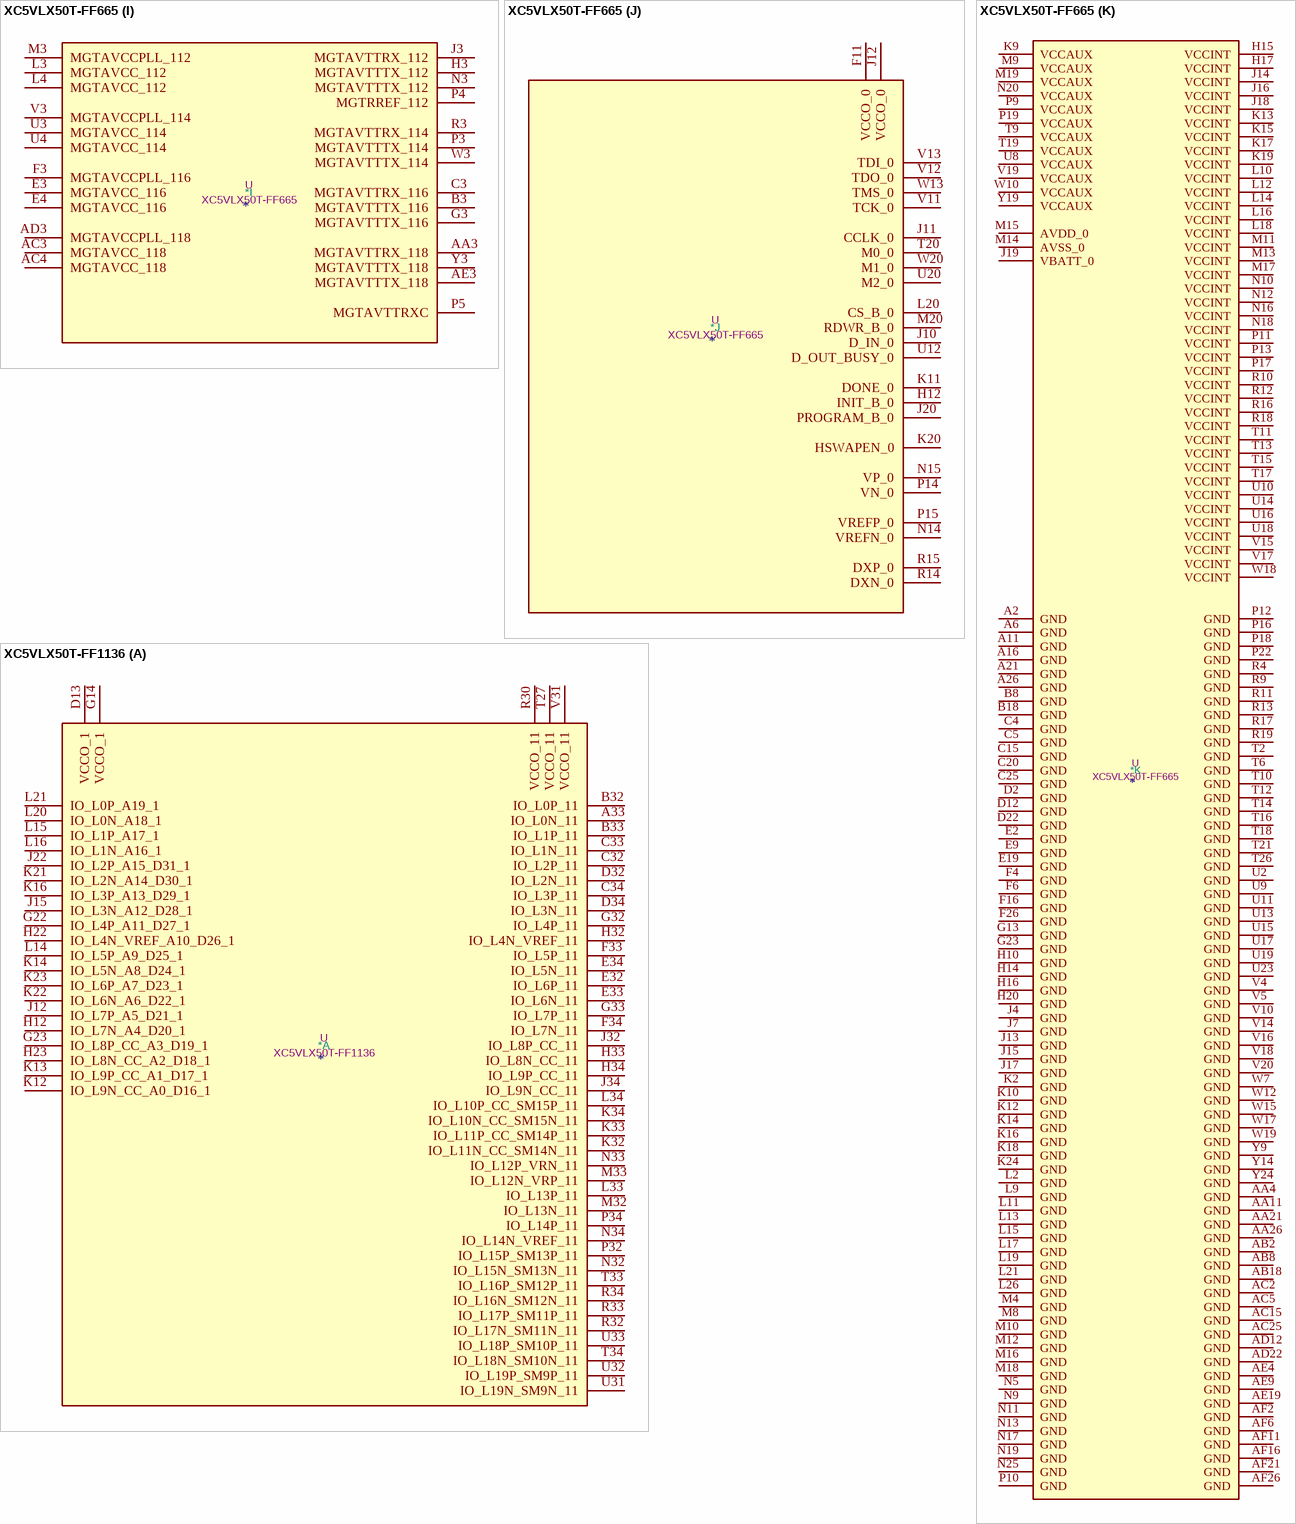
[diagram p43: symbols XC5VLX50T-FF665 to XC5VLX50T-FF1136]